# Altium schematic symbol library dungvh03-ICs.SchLib: 787 symbols (part 8 of 30)
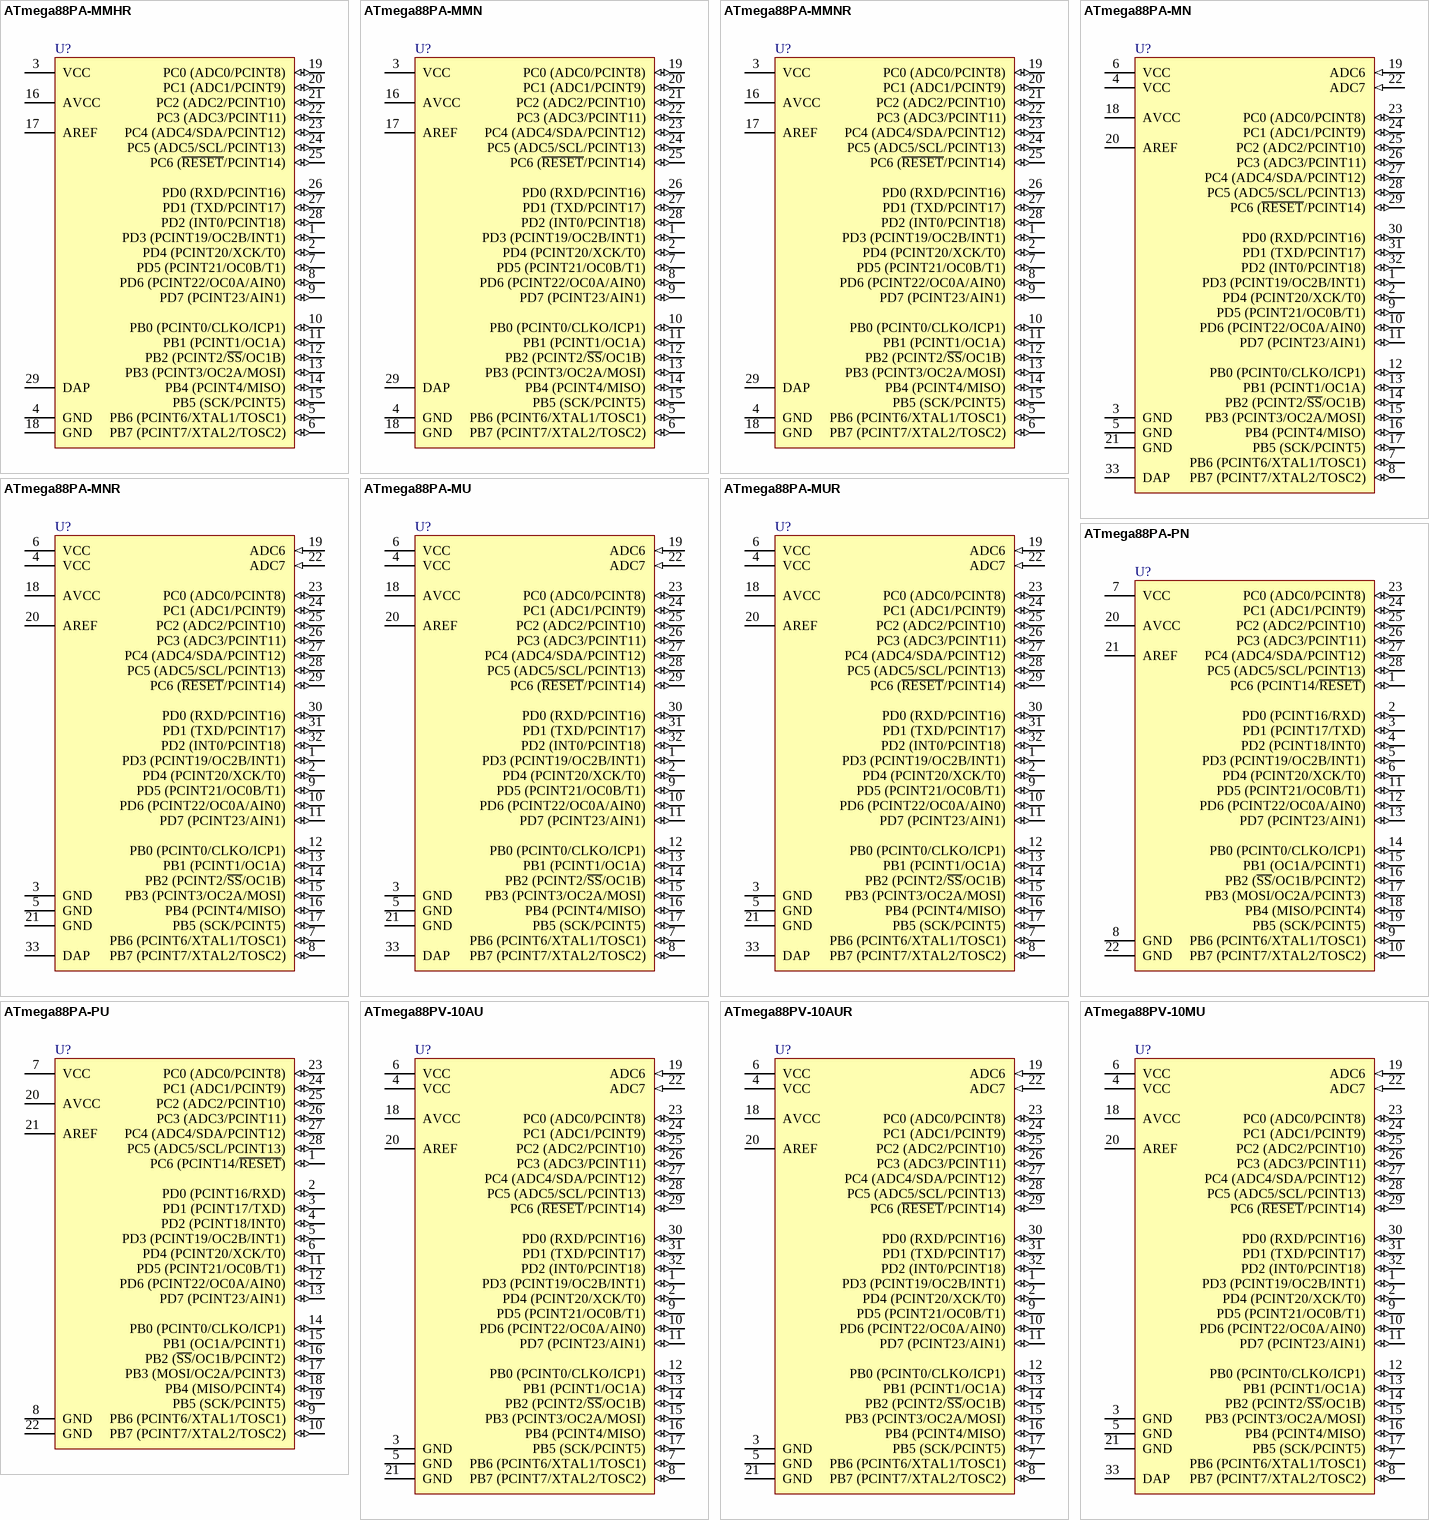
[diagram p105: symbols ATmega88PA-MMHR to ATmega88PV-10MU]

## ATmega88PA-MN
designator U?
8-bit AVR Microcontroller, 8KB Flash, 512 Bytes EEPROM, 1KB SRAM, 32-pin MLF, Industrial Grade (-40°C to 105°C); DatasheetVersion: revD, May-2011; PackageVersion: revE, May-2006; PackageReference: 32M1-A; PackageDescription: 32-Pin Micro Lead Frame Package (MLF),  5 x 5 x 1.0 mm Body, Pitch 0.50 mm, 3.10mm Exposed Pad; Code_JEDEC: MO-220-VHHD-2; ComponentLink1Description: Manufacturer URL; ComponentLink1URL: http://www.atmel.com/; ComponentLink2Description: ATmega48A/48PA/88A/88PA/168A/168PA/328/328P Datasheet; ComponentLink2URL: http://www.atmel.com/dyn/resources/prod_documents/8271.pdf; ComponentLink3Description: ATmega48A/48PA/88A/88PA/168A/168PA/328/328P Summary; ComponentLink3URL: http://www.atmel.com/dyn/resources/prod_documents/8271S.pdf
footprint 32M1-A_N (QFN, 32-Leads, Body 5x5mm, Pitch 0.5mm, Thermal Pad 3.3x3.3mm, IPC Medium Density)
footprint 32M1-A_L (QFN, 32-Leads, Body 5x5mm, Pitch 0.5mm, Thermal Pad 3.3x3.3mm, IPC High Density)
footprint 32M1-A_M (QFN, 32-Leads, Body 5x5mm, Pitch 0.5mm, Thermal Pad 3.3x3.3mm, IPC Low Density)
pins: 1 PD3 (PCINT19/OC2B/INT1) (io), 2 PD4 (PCINT20/XCK/T0) (io), 3 GND (power), 4 VCC (power), 5 GND (power), 6 VCC (power), 7 PB6 (PCINT6/XTAL1/TOSC1) (io), 8 PB7 (PCINT7/XTAL2/TOSC2) (io), 9 PD5 (PCINT21/OC0B/T1) (io), 10 PD6 (PCINT22/OC0A/AIN0) (io), 11 PD7 (PCINT23/AIN1) (io), 12 PB0 (PCINT0/CLKO/ICP1) (io), 13 PB1 (PCINT1/OC1A) (io), 14 PB2 (PCINT2/~{SS}/OC1B) (io), 15 PB3 (PCINT3/OC2A/MOSI) (io), 16 PB4 (PCINT4/MISO) (io), 17 PB5 (SCK/PCINT5) (io), 18 AVCC (power), 19 ADC6 (in), 20 AREF, 21 GND (power), 22 ADC7 (in), 23 PC0 (ADC0/PCINT8) (io), 24 PC1 (ADC1/PCINT9) (io), 25 PC2 (ADC2/PCINT10) (io), 26 PC3 (ADC3/PCINT11) (io), 27 PC4 (ADC4/SDA/PCINT12) (io), 28 PC5 (ADC5/SCL/PCINT13) (io), 29 PC6 (~{RESET}/PCINT14) (io), 30 PD0 (RXD/PCINT16) (io), 31 PD1 (TXD/PCINT17) (io), 32 PD2 (INT0/PCINT18) (io), 33 DAP (power)

## ATmega88PA-MNR
designator U?
8-bit AVR Microcontroller, 8KB Flash, 512 Bytes EEPROM, 1KB SRAM, 32-pin MLF, Industrial Grade (-40°C to 105°C), Reel; DatasheetVersion: revD, May-2011; PackageVersion: revE, May-2006; PackageReference: 32M1-A; PackageDescription: 32-Pin Micro Lead Frame Package (MLF),  5 x 5 x 1.0 mm Body, Pitch 0.50 mm, 3.10mm Exposed Pad; Code_JEDEC: MO-220-VHHD-2; ComponentLink1Description: Manufacturer URL; ComponentLink1URL: http://www.atmel.com/; ComponentLink2Description: ATmega48A/48PA/88A/88PA/168A/168PA/328/328P Datasheet; ComponentLink2URL: http://www.atmel.com/dyn/resources/prod_documents/8271.pdf; ComponentLink3Description: ATmega48A/48PA/88A/88PA/168A/168PA/328/328P Summary; ComponentLink3URL: http://www.atmel.com/dyn/resources/prod_documents/8271S.pdf
footprint 32M1-A_N (QFN, 32-Leads, Body 5x5mm, Pitch 0.5mm, Thermal Pad 3.3x3.3mm, IPC Medium Density)
footprint 32M1-A_L (QFN, 32-Leads, Body 5x5mm, Pitch 0.5mm, Thermal Pad 3.3x3.3mm, IPC High Density)
footprint 32M1-A_M (QFN, 32-Leads, Body 5x5mm, Pitch 0.5mm, Thermal Pad 3.3x3.3mm, IPC Low Density)
pins: 1 PD3 (PCINT19/OC2B/INT1) (io), 2 PD4 (PCINT20/XCK/T0) (io), 3 GND (power), 4 VCC (power), 5 GND (power), 6 VCC (power), 7 PB6 (PCINT6/XTAL1/TOSC1) (io), 8 PB7 (PCINT7/XTAL2/TOSC2) (io), 9 PD5 (PCINT21/OC0B/T1) (io), 10 PD6 (PCINT22/OC0A/AIN0) (io), 11 PD7 (PCINT23/AIN1) (io), 12 PB0 (PCINT0/CLKO/ICP1) (io), 13 PB1 (PCINT1/OC1A) (io), 14 PB2 (PCINT2/~{SS}/OC1B) (io), 15 PB3 (PCINT3/OC2A/MOSI) (io), 16 PB4 (PCINT4/MISO) (io), 17 PB5 (SCK/PCINT5) (io), 18 AVCC (power), 19 ADC6 (in), 20 AREF, 21 GND (power), 22 ADC7 (in), 23 PC0 (ADC0/PCINT8) (io), 24 PC1 (ADC1/PCINT9) (io), 25 PC2 (ADC2/PCINT10) (io), 26 PC3 (ADC3/PCINT11) (io), 27 PC4 (ADC4/SDA/PCINT12) (io), 28 PC5 (ADC5/SCL/PCINT13) (io), 29 PC6 (~{RESET}/PCINT14) (io), 30 PD0 (RXD/PCINT16) (io), 31 PD1 (TXD/PCINT17) (io), 32 PD2 (INT0/PCINT18) (io), 33 DAP (power)

## ATmega88PA-MU
designator U?
8-bit AVR Microcontroller, 8KB Flash, 512 Bytes EEPROM, 1KB SRAM, 32-pin MLF, Industrial Grade (-40°C to 85°C); DatasheetVersion: revD, May-2011; PackageVersion: revE, May-2006; PackageReference: 32M1-A; PackageDescription: 32-Pin Micro Lead Frame Package (MLF),  5 x 5 x 1.0 mm Body, Pitch 0.50 mm, 3.10mm Exposed Pad; Code_JEDEC: MO-220-VHHD-2; ComponentLink1Description: Manufacturer URL; ComponentLink1URL: http://www.atmel.com/; ComponentLink2Description: ATmega48A/48PA/88A/88PA/168A/168PA/328/328P Datasheet; ComponentLink2URL: http://www.atmel.com/dyn/resources/prod_documents/8271.pdf; ComponentLink3Description: ATmega48A/48PA/88A/88PA/168A/168PA/328/328P Summary; ComponentLink3URL: http://www.atmel.com/dyn/resources/prod_documents/8271S.pdf
footprint 32M1-A_N (QFN, 32-Leads, Body 5x5mm, Pitch 0.5mm, Thermal Pad 3.3x3.3mm, IPC Medium Density)
footprint 32M1-A_L (QFN, 32-Leads, Body 5x5mm, Pitch 0.5mm, Thermal Pad 3.3x3.3mm, IPC High Density)
footprint 32M1-A_M (QFN, 32-Leads, Body 5x5mm, Pitch 0.5mm, Thermal Pad 3.3x3.3mm, IPC Low Density)
pins: 1 PD3 (PCINT19/OC2B/INT1) (io), 2 PD4 (PCINT20/XCK/T0) (io), 3 GND (power), 4 VCC (power), 5 GND (power), 6 VCC (power), 7 PB6 (PCINT6/XTAL1/TOSC1) (io), 8 PB7 (PCINT7/XTAL2/TOSC2) (io), 9 PD5 (PCINT21/OC0B/T1) (io), 10 PD6 (PCINT22/OC0A/AIN0) (io), 11 PD7 (PCINT23/AIN1) (io), 12 PB0 (PCINT0/CLKO/ICP1) (io), 13 PB1 (PCINT1/OC1A) (io), 14 PB2 (PCINT2/~{SS}/OC1B) (io), 15 PB3 (PCINT3/OC2A/MOSI) (io), 16 PB4 (PCINT4/MISO) (io), 17 PB5 (SCK/PCINT5) (io), 18 AVCC (power), 19 ADC6 (in), 20 AREF, 21 GND (power), 22 ADC7 (in), 23 PC0 (ADC0/PCINT8) (io), 24 PC1 (ADC1/PCINT9) (io), 25 PC2 (ADC2/PCINT10) (io), 26 PC3 (ADC3/PCINT11) (io), 27 PC4 (ADC4/SDA/PCINT12) (io), 28 PC5 (ADC5/SCL/PCINT13) (io), 29 PC6 (~{RESET}/PCINT14) (io), 30 PD0 (RXD/PCINT16) (io), 31 PD1 (TXD/PCINT17) (io), 32 PD2 (INT0/PCINT18) (io), 33 DAP (power)

## ATmega88PA-MUR
designator U?
8-bit AVR Microcontroller, 8KB Flash, 512 Bytes EEPROM, 1KB SRAM, 32-pin MLF, Industrial Grade (-40°C to 85°C), Reel; DatasheetVersion: revD, May-2011; PackageVersion: revE, May-2006; PackageReference: 32M1-A; PackageDescription: 32-Pin Micro Lead Frame Package (MLF),  5 x 5 x 1.0 mm Body, Pitch 0.50 mm, 3.10mm Exposed Pad; Code_JEDEC: MO-220-VHHD-2; ComponentLink1Description: Manufacturer URL; ComponentLink1URL: http://www.atmel.com/; ComponentLink2Description: ATmega48A/48PA/88A/88PA/168A/168PA/328/328P Datasheet; ComponentLink2URL: http://www.atmel.com/dyn/resources/prod_documents/8271.pdf; ComponentLink3Description: ATmega48A/48PA/88A/88PA/168A/168PA/328/328P Summary; ComponentLink3URL: http://www.atmel.com/dyn/resources/prod_documents/8271S.pdf
footprint 32M1-A_N (QFN, 32-Leads, Body 5x5mm, Pitch 0.5mm, Thermal Pad 3.3x3.3mm, IPC Medium Density)
footprint 32M1-A_L (QFN, 32-Leads, Body 5x5mm, Pitch 0.5mm, Thermal Pad 3.3x3.3mm, IPC High Density)
footprint 32M1-A_M (QFN, 32-Leads, Body 5x5mm, Pitch 0.5mm, Thermal Pad 3.3x3.3mm, IPC Low Density)
pins: 1 PD3 (PCINT19/OC2B/INT1) (io), 2 PD4 (PCINT20/XCK/T0) (io), 3 GND (power), 4 VCC (power), 5 GND (power), 6 VCC (power), 7 PB6 (PCINT6/XTAL1/TOSC1) (io), 8 PB7 (PCINT7/XTAL2/TOSC2) (io), 9 PD5 (PCINT21/OC0B/T1) (io), 10 PD6 (PCINT22/OC0A/AIN0) (io), 11 PD7 (PCINT23/AIN1) (io), 12 PB0 (PCINT0/CLKO/ICP1) (io), 13 PB1 (PCINT1/OC1A) (io), 14 PB2 (PCINT2/~{SS}/OC1B) (io), 15 PB3 (PCINT3/OC2A/MOSI) (io), 16 PB4 (PCINT4/MISO) (io), 17 PB5 (SCK/PCINT5) (io), 18 AVCC (power), 19 ADC6 (in), 20 AREF, 21 GND (power), 22 ADC7 (in), 23 PC0 (ADC0/PCINT8) (io), 24 PC1 (ADC1/PCINT9) (io), 25 PC2 (ADC2/PCINT10) (io), 26 PC3 (ADC3/PCINT11) (io), 27 PC4 (ADC4/SDA/PCINT12) (io), 28 PC5 (ADC5/SCL/PCINT13) (io), 29 PC6 (~{RESET}/PCINT14) (io), 30 PD0 (RXD/PCINT16) (io), 31 PD1 (TXD/PCINT17) (io), 32 PD2 (INT0/PCINT18) (io), 33 DAP (power)

## ATmega88PA-PN
designator U?
8-bit AVR Microcontroller, 8KB Flash, 512 Bytes EEPROM, 1KB SRAM, 28-pin PDIP, Industrial Grade (-40°C to 105°C); DatasheetVersion: revD, May-2011; PackageVersion: revB, Sep-2001; PackageReference: 28P3; PackageDescription: 28-lead (0.300"/7.62mm Wide) Plastic Dual Inline Package (PDIP); ComponentLink1Description: Manufacturer URL; ComponentLink1URL: http://www.atmel.com/; ComponentLink2Description: ATmega48A/48PA/88A/88PA/168A/168PA/328/328P Datasheet; ComponentLink2URL: http://www.atmel.com/dyn/resources/prod_documents/8271.pdf; ComponentLink3Description: ATmega48A/48PA/88A/88PA/168A/168PA/328/328P Summary; ComponentLink3URL: http://www.atmel.com/dyn/resources/prod_documents/8271S.pdf
footprint 28P3 (DIP, 28-Leads, Row Spacing 7.62mm, Pitch 2.54mm, Body 34.67x7.3mm)
pins: 1 PC6 (PCINT14/~{RESET}) (io), 2 PD0 (PCINT16/RXD) (io), 3 PD1 (PCINT17/TXD) (io), 4 PD2 (PCINT18/INT0) (io), 5 PD3 (PCINT19/OC2B/INT1) (io), 6 PD4 (PCINT20/XCK/T0) (io), 7 VCC (power), 8 GND (power), 9 PB6 (PCINT6/XTAL1/TOSC1) (io), 10 PB7 (PCINT7/XTAL2/TOSC2) (io), 11 PD5 (PCINT21/OC0B/T1) (io), 12 PD6 (PCINT22/OC0A/AIN0) (io), 13 PD7 (PCINT23/AIN1) (io), 14 PB0 (PCINT0/CLKO/ICP1) (io), 15 PB1 (OC1A/PCINT1) (io), 16 PB2 (~{SS}/OC1B/PCINT2) (io), 17 PB3 (MOSI/OC2A/PCINT3) (io), 18 PB4 (MISO/PCINT4) (io), 19 PB5 (SCK/PCINT5) (io), 20 AVCC (power), 21 AREF (power), 22 GND (power), 23 PC0 (ADC0/PCINT8) (io), 24 PC1 (ADC1/PCINT9) (io), 25 PC2 (ADC2/PCINT10) (io), 26 PC3 (ADC3/PCINT11) (io), 27 PC4 (ADC4/SDA/PCINT12) (io), 28 PC5 (ADC5/SCL/PCINT13) (io)

## ATmega88PA-PU
designator U?
8-bit AVR Microcontroller, 8KB Flash, 512 Bytes EEPROM, 1KB SRAM, 28-pin PDIP, Industrial Grade (-40°C to 85°C); DatasheetVersion: revD, May-2011; PackageVersion: revB, Sep-2001; PackageReference: 28P3; PackageDescription: 28-lead (0.300"/7.62mm Wide) Plastic Dual Inline Package (PDIP); ComponentLink1Description: Manufacturer URL; ComponentLink1URL: http://www.atmel.com/; ComponentLink2Description: ATmega48A/48PA/88A/88PA/168A/168PA/328/328P Datasheet; ComponentLink2URL: http://www.atmel.com/dyn/resources/prod_documents/8271.pdf; ComponentLink3Description: ATmega48A/48PA/88A/88PA/168A/168PA/328/328P Summary; ComponentLink3URL: http://www.atmel.com/dyn/resources/prod_documents/8271S.pdf
footprint 28P3 (DIP, 28-Leads, Row Spacing 7.62mm, Pitch 2.54mm, Body 34.67x7.3mm)
pins: 1 PC6 (PCINT14/~{RESET}) (io), 2 PD0 (PCINT16/RXD) (io), 3 PD1 (PCINT17/TXD) (io), 4 PD2 (PCINT18/INT0) (io), 5 PD3 (PCINT19/OC2B/INT1) (io), 6 PD4 (PCINT20/XCK/T0) (io), 7 VCC (power), 8 GND (power), 9 PB6 (PCINT6/XTAL1/TOSC1) (io), 10 PB7 (PCINT7/XTAL2/TOSC2) (io), 11 PD5 (PCINT21/OC0B/T1) (io), 12 PD6 (PCINT22/OC0A/AIN0) (io), 13 PD7 (PCINT23/AIN1) (io), 14 PB0 (PCINT0/CLKO/ICP1) (io), 15 PB1 (OC1A/PCINT1) (io), 16 PB2 (~{SS}/OC1B/PCINT2) (io), 17 PB3 (MOSI/OC2A/PCINT3) (io), 18 PB4 (MISO/PCINT4) (io), 19 PB5 (SCK/PCINT5) (io), 20 AVCC (power), 21 AREF (power), 22 GND (power), 23 PC0 (ADC0/PCINT8) (io), 24 PC1 (ADC1/PCINT9) (io), 25 PC2 (ADC2/PCINT10) (io), 26 PC3 (ADC3/PCINT11) (io), 27 PC4 (ADC4/SDA/PCINT12) (io), 28 PC5 (ADC5/SCL/PCINT13) (io)

## ATmega88PV-10AU
designator U?
8-bit AVR Microcontroller, picoPower, 1.8-5.5V, 8KB Flash, 512 Bytes EEPROM, 1KB SRAM, 32-pin TQFP, Industrial Grade (-40°C to 85°C); DatasheetVersion: revM Jun-2011; PackageVersion: revC, Oct-2010; PackageReference: 32A; PackageDescription: 32-Lead, 7x7x1.0 mm Body, 0.8mm Lead Pitch, Thin Profile Plastic Quad Flat Package (TQFP); Code_JEDEC: MS-026-ABA; ComponentLink1Description: Manufacturer URL; ComponentLink1URL: http://www.atmel.com/; ComponentLink2Description: ATmega48P/88P/168P Datasheet; ComponentLink2URL: http://www.atmel.com/dyn/resources/prod_documents/doc8025.pdf; ComponentLink3Description: ATmega48P/88P/168P Summary; ComponentLink3URL: http://www.atmel.com/dyn/resources/prod_documents/8025s.pdf
footprint 32A_N (Thin QFP, 32-Leads, Body 7x7mm, Pitch 0.8mm, IPC Medium Density)
footprint 32A_L (Thin QFP, 32-Leads, Body 7x7mm, Pitch 0.8mm, IPC High Density)
footprint 32A_M (Thin QFP, 32-Leads, Body 7x7mm, Pitch 0.8mm, IPC Low Density)
pins: 1 PD3 (PCINT19/OC2B/INT1) (io), 2 PD4 (PCINT20/XCK/T0) (io), 3 GND (power), 4 VCC (power), 5 GND (power), 6 VCC (power), 7 PB6 (PCINT6/XTAL1/TOSC1) (io), 8 PB7 (PCINT7/XTAL2/TOSC2) (io), 9 PD5 (PCINT21/OC0B/T1) (io), 10 PD6 (PCINT22/OC0A/AIN0) (io), 11 PD7 (PCINT23/AIN1) (io), 12 PB0 (PCINT0/CLKO/ICP1) (io), 13 PB1 (PCINT1/OC1A) (io), 14 PB2 (PCINT2/~{SS}/OC1B) (io), 15 PB3 (PCINT3/OC2A/MOSI) (io), 16 PB4 (PCINT4/MISO) (io), 17 PB5 (SCK/PCINT5) (io), 18 AVCC (power), 19 ADC6 (in), 20 AREF, 21 GND (power), 22 ADC7 (in), 23 PC0 (ADC0/PCINT8) (io), 24 PC1 (ADC1/PCINT9) (io), 25 PC2 (ADC2/PCINT10) (io), 26 PC3 (ADC3/PCINT11) (io), 27 PC4 (ADC4/SDA/PCINT12) (io), 28 PC5 (ADC5/SCL/PCINT13) (io), 29 PC6 (~{RESET}/PCINT14) (io), 30 PD0 (RXD/PCINT16) (io), 31 PD1 (TXD/PCINT17) (io), 32 PD2 (INT0/PCINT18) (io)

## ATmega88PV-10AUR
designator U?
8-bit AVR Microcontroller, picoPower, 1.8-5.5V, 8KB Flash, 512 Bytes EEPROM, 1KB SRAM, 32-pin TQFP, Industrial Grade (-40°C to 85°C); DatasheetVersion: revM Jun-2011; PackageVersion: revC, Oct-2010; PackageReference: 32A; PackageDescription: 32-Lead, 7x7x1.0 mm Body, 0.8mm Lead Pitch, Thin Profile Plastic Quad Flat Package (TQFP); Code_JEDEC: MS-026-ABA; ComponentLink1Description: Manufacturer URL; ComponentLink1URL: http://www.atmel.com/; ComponentLink2Description: ATmega48P/88P/168P Datasheet; ComponentLink2URL: http://www.atmel.com/dyn/resources/prod_documents/doc8025.pdf; ComponentLink3Description: ATmega48P/88P/168P Summary; ComponentLink3URL: http://www.atmel.com/dyn/resources/prod_documents/8025s.pdf
footprint 32A_N (Thin QFP, 32-Leads, Body 7x7mm, Pitch 0.8mm, IPC Medium Density)
footprint 32A_L (Thin QFP, 32-Leads, Body 7x7mm, Pitch 0.8mm, IPC High Density)
footprint 32A_M (Thin QFP, 32-Leads, Body 7x7mm, Pitch 0.8mm, IPC Low Density)
pins: 1 PD3 (PCINT19/OC2B/INT1) (io), 2 PD4 (PCINT20/XCK/T0) (io), 3 GND (power), 4 VCC (power), 5 GND (power), 6 VCC (power), 7 PB6 (PCINT6/XTAL1/TOSC1) (io), 8 PB7 (PCINT7/XTAL2/TOSC2) (io), 9 PD5 (PCINT21/OC0B/T1) (io), 10 PD6 (PCINT22/OC0A/AIN0) (io), 11 PD7 (PCINT23/AIN1) (io), 12 PB0 (PCINT0/CLKO/ICP1) (io), 13 PB1 (PCINT1/OC1A) (io), 14 PB2 (PCINT2/~{SS}/OC1B) (io), 15 PB3 (PCINT3/OC2A/MOSI) (io), 16 PB4 (PCINT4/MISO) (io), 17 PB5 (SCK/PCINT5) (io), 18 AVCC (power), 19 ADC6 (in), 20 AREF, 21 GND (power), 22 ADC7 (in), 23 PC0 (ADC0/PCINT8) (io), 24 PC1 (ADC1/PCINT9) (io), 25 PC2 (ADC2/PCINT10) (io), 26 PC3 (ADC3/PCINT11) (io), 27 PC4 (ADC4/SDA/PCINT12) (io), 28 PC5 (ADC5/SCL/PCINT13) (io), 29 PC6 (~{RESET}/PCINT14) (io), 30 PD0 (RXD/PCINT16) (io), 31 PD1 (TXD/PCINT17) (io), 32 PD2 (INT0/PCINT18) (io)

## ATmega88PV-10MU
designator U?
8-bit AVR Microcontroller, picoPower, 1.8-5.5V, 8KB Flash, 512 Bytes EEPROM, 1KB SRAM, 32-pin MLF, Industrial Grade (-40°C to 85°C); DatasheetVersion: revM Jun-2011; PackageVersion: revE, May-2006; PackageReference: 32M1-A; PackageDescription: 32-Pin Micro Lead Frame Package (MLF),  5 x 5 x 1.0 mm Body, Pitch 0.50 mm, 3.10mm Exposed Pad; Code_JEDEC: MO-220-VHHD-2; ComponentLink1Description: Manufacturer URL; ComponentLink1URL: http://www.atmel.com/; ComponentLink2Description: ATmega48P/88P/168P Datasheet; ComponentLink2URL: http://www.atmel.com/dyn/resources/prod_documents/doc8025.pdf; ComponentLink3Description: ATmega48P/88P/168P Summary; ComponentLink3URL: http://www.atmel.com/dyn/resources/prod_documents/8025s.pdf
footprint 32M1-A_N (QFN, 32-Leads, Body 5x5mm, Pitch 0.5mm, Thermal Pad 3.3x3.3mm, IPC Medium Density)
footprint 32M1-A_L (QFN, 32-Leads, Body 5x5mm, Pitch 0.5mm, Thermal Pad 3.3x3.3mm, IPC High Density)
footprint 32M1-A_M (QFN, 32-Leads, Body 5x5mm, Pitch 0.5mm, Thermal Pad 3.3x3.3mm, IPC Low Density)
pins: 1 PD3 (PCINT19/OC2B/INT1) (io), 2 PD4 (PCINT20/XCK/T0) (io), 3 GND (power), 4 VCC (power), 5 GND (power), 6 VCC (power), 7 PB6 (PCINT6/XTAL1/TOSC1) (io), 8 PB7 (PCINT7/XTAL2/TOSC2) (io), 9 PD5 (PCINT21/OC0B/T1) (io), 10 PD6 (PCINT22/OC0A/AIN0) (io), 11 PD7 (PCINT23/AIN1) (io), 12 PB0 (PCINT0/CLKO/ICP1) (io), 13 PB1 (PCINT1/OC1A) (io), 14 PB2 (PCINT2/~{SS}/OC1B) (io), 15 PB3 (PCINT3/OC2A/MOSI) (io), 16 PB4 (PCINT4/MISO) (io), 17 PB5 (SCK/PCINT5) (io), 18 AVCC (power), 19 ADC6 (in), 20 AREF, 21 GND (power), 22 ADC7 (in), 23 PC0 (ADC0/PCINT8) (io), 24 PC1 (ADC1/PCINT9) (io), 25 PC2 (ADC2/PCINT10) (io), 26 PC3 (ADC3/PCINT11) (io), 27 PC4 (ADC4/SDA/PCINT12) (io), 28 PC5 (ADC5/SCL/PCINT13) (io), 29 PC6 (~{RESET}/PCINT14) (io), 30 PD0 (RXD/PCINT16) (io), 31 PD1 (TXD/PCINT17) (io), 32 PD2 (INT0/PCINT18) (io), 33 DAP (power)

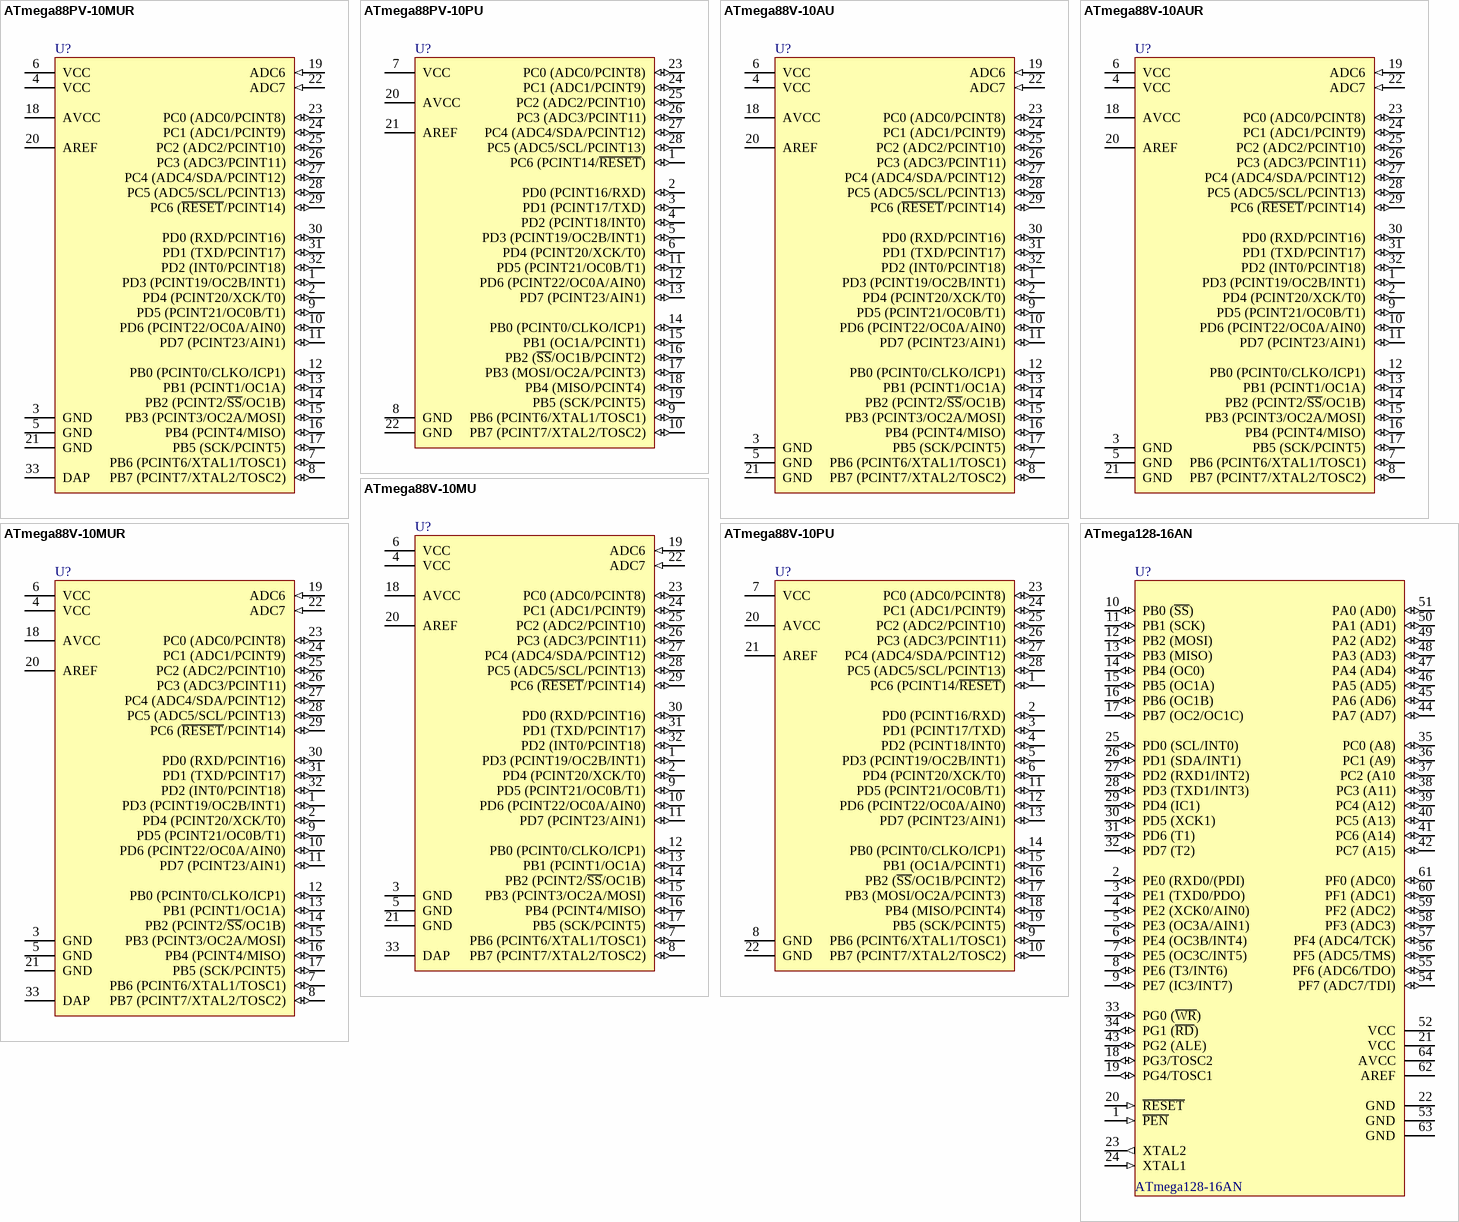
[diagram p19: symbols ATmega88PV-10MUR to ATmega128-16AN]

## ATmega88PV-10MUR
designator U?
8-bit AVR Microcontroller, picoPower, 1.8-5.5V, 8KB Flash, 512 Bytes EEPROM, 1KB SRAM, 32-pin MLF, Industrial Grade (-40°C to 85°C); DatasheetVersion: revM Jun-2011; PackageVersion: revE, May-2006; PackageReference: 32M1-A; PackageDescription: 32-Pin Micro Lead Frame Package (MLF),  5 x 5 x 1.0 mm Body, Pitch 0.50 mm, 3.10mm Exposed Pad; Code_JEDEC: MO-220-VHHD-2; ComponentLink1Description: Manufacturer URL; ComponentLink1URL: http://www.atmel.com/; ComponentLink2Description: ATmega48P/88P/168P Datasheet; ComponentLink2URL: http://www.atmel.com/dyn/resources/prod_documents/doc8025.pdf; ComponentLink3Description: ATmega48P/88P/168P Summary; ComponentLink3URL: http://www.atmel.com/dyn/resources/prod_documents/8025s.pdf
footprint 32M1-A_N (QFN, 32-Leads, Body 5x5mm, Pitch 0.5mm, Thermal Pad 3.3x3.3mm, IPC Medium Density)
footprint 32M1-A_L (QFN, 32-Leads, Body 5x5mm, Pitch 0.5mm, Thermal Pad 3.3x3.3mm, IPC High Density)
footprint 32M1-A_M (QFN, 32-Leads, Body 5x5mm, Pitch 0.5mm, Thermal Pad 3.3x3.3mm, IPC Low Density)
pins: 1 PD3 (PCINT19/OC2B/INT1) (io), 2 PD4 (PCINT20/XCK/T0) (io), 3 GND (power), 4 VCC (power), 5 GND (power), 6 VCC (power), 7 PB6 (PCINT6/XTAL1/TOSC1) (io), 8 PB7 (PCINT7/XTAL2/TOSC2) (io), 9 PD5 (PCINT21/OC0B/T1) (io), 10 PD6 (PCINT22/OC0A/AIN0) (io), 11 PD7 (PCINT23/AIN1) (io), 12 PB0 (PCINT0/CLKO/ICP1) (io), 13 PB1 (PCINT1/OC1A) (io), 14 PB2 (PCINT2/~{SS}/OC1B) (io), 15 PB3 (PCINT3/OC2A/MOSI) (io), 16 PB4 (PCINT4/MISO) (io), 17 PB5 (SCK/PCINT5) (io), 18 AVCC (power), 19 ADC6 (in), 20 AREF, 21 GND (power), 22 ADC7 (in), 23 PC0 (ADC0/PCINT8) (io), 24 PC1 (ADC1/PCINT9) (io), 25 PC2 (ADC2/PCINT10) (io), 26 PC3 (ADC3/PCINT11) (io), 27 PC4 (ADC4/SDA/PCINT12) (io), 28 PC5 (ADC5/SCL/PCINT13) (io), 29 PC6 (~{RESET}/PCINT14) (io), 30 PD0 (RXD/PCINT16) (io), 31 PD1 (TXD/PCINT17) (io), 32 PD2 (INT0/PCINT18) (io), 33 DAP (power)

## ATmega88PV-10PU
designator U?
8-bit AVR Microcontroller, picoPower, 1.8-5.5V, 8KB Flash, 512 Bytes EEPROM, 1KB SRAM, 28-pin PDIP, Industrial Grade (-40°C to 85°C); DatasheetVersion: revM Jun-2011; PackageVersion: revB, Sep-2001; PackageReference: 28P3; PackageDescription: 28-lead (0.300"/7.62mm Wide) Plastic Dual Inline Package (PDIP); ComponentLink1Description: Manufacturer URL; ComponentLink1URL: http://www.atmel.com/; ComponentLink2Description: ATmega48P/88P/168P Datasheet; ComponentLink2URL: http://www.atmel.com/dyn/resources/prod_documents/doc8025.pdf; ComponentLink3Description: ATmega48P/88P/168P Summary; ComponentLink3URL: http://www.atmel.com/dyn/resources/prod_documents/8025s.pdf
footprint 28P3 (DIP, 28-Leads, Row Spacing 7.62mm, Pitch 2.54mm, Body 34.67x7.3mm)
pins: 1 PC6 (PCINT14/~{RESET}) (io), 2 PD0 (PCINT16/RXD) (io), 3 PD1 (PCINT17/TXD) (io), 4 PD2 (PCINT18/INT0) (io), 5 PD3 (PCINT19/OC2B/INT1) (io), 6 PD4 (PCINT20/XCK/T0) (io), 7 VCC (power), 8 GND (power), 9 PB6 (PCINT6/XTAL1/TOSC1) (io), 10 PB7 (PCINT7/XTAL2/TOSC2) (io), 11 PD5 (PCINT21/OC0B/T1) (io), 12 PD6 (PCINT22/OC0A/AIN0) (io), 13 PD7 (PCINT23/AIN1) (io), 14 PB0 (PCINT0/CLKO/ICP1) (io), 15 PB1 (OC1A/PCINT1) (io), 16 PB2 (~{SS}/OC1B/PCINT2) (io), 17 PB3 (MOSI/OC2A/PCINT3) (io), 18 PB4 (MISO/PCINT4) (io), 19 PB5 (SCK/PCINT5) (io), 20 AVCC (power), 21 AREF (power), 22 GND (power), 23 PC0 (ADC0/PCINT8) (io), 24 PC1 (ADC1/PCINT9) (io), 25 PC2 (ADC2/PCINT10) (io), 26 PC3 (ADC3/PCINT11) (io), 27 PC4 (ADC4/SDA/PCINT12) (io), 28 PC5 (ADC5/SCL/PCINT13) (io)

## ATmega88V-10AU
designator U?
8-bit AVR Microcontroller, 1.8-5.5V, 10MHz, 8KB Flash, 512 Bytes EEPROM, 1KB SRAM, 32-pin TQFP, Industrial Grade (-40°C to 85°C); DatasheetVersion: revT, May-2011; PackageVersion: revC, Oct-2010; PackageReference: 32A; PackageDescription: 32-Lead, 7x7x1.0 mm Body, 0.8mm Lead Pitch, Thin Profile Plastic Quad Flat Package (TQFP); Code_JEDEC: MS-026-ABA; ComponentLink1Description: Manufacturer URL; ComponentLink1URL: http://www.atmel.com/; ComponentLink2Description: ATmega48/88/168 Datasheet; ComponentLink2URL: http://www.atmel.com/dyn/resources/prod_documents/doc2545.pdf; ComponentLink3Description: ATmega48/88/168 Summary; ComponentLink3URL: http://www.atmel.com/dyn/resources/prod_documents/2545S.pdf
footprint 32A_N (Thin QFP, 32-Leads, Body 7x7mm, Pitch 0.8mm, IPC Medium Density)
footprint 32A_L (Thin QFP, 32-Leads, Body 7x7mm, Pitch 0.8mm, IPC High Density)
footprint 32A_M (Thin QFP, 32-Leads, Body 7x7mm, Pitch 0.8mm, IPC Low Density)
pins: 1 PD3 (PCINT19/OC2B/INT1) (io), 2 PD4 (PCINT20/XCK/T0) (io), 3 GND (power), 4 VCC (power), 5 GND (power), 6 VCC (power), 7 PB6 (PCINT6/XTAL1/TOSC1) (io), 8 PB7 (PCINT7/XTAL2/TOSC2) (io), 9 PD5 (PCINT21/OC0B/T1) (io), 10 PD6 (PCINT22/OC0A/AIN0) (io), 11 PD7 (PCINT23/AIN1) (io), 12 PB0 (PCINT0/CLKO/ICP1) (io), 13 PB1 (PCINT1/OC1A) (io), 14 PB2 (PCINT2/~{SS}/OC1B) (io), 15 PB3 (PCINT3/OC2A/MOSI) (io), 16 PB4 (PCINT4/MISO) (io), 17 PB5 (SCK/PCINT5) (io), 18 AVCC (power), 19 ADC6 (in), 20 AREF, 21 GND (power), 22 ADC7 (in), 23 PC0 (ADC0/PCINT8) (io), 24 PC1 (ADC1/PCINT9) (io), 25 PC2 (ADC2/PCINT10) (io), 26 PC3 (ADC3/PCINT11) (io), 27 PC4 (ADC4/SDA/PCINT12) (io), 28 PC5 (ADC5/SCL/PCINT13) (io), 29 PC6 (~{RESET}/PCINT14) (io), 30 PD0 (RXD/PCINT16) (io), 31 PD1 (TXD/PCINT17) (io), 32 PD2 (INT0/PCINT18) (io)

## ATmega88V-10AUR
designator U?
8-bit AVR Microcontroller, 1.8-5.5V, 10MHz, 8KB Flash, 512 Bytes EEPROM, 1KB SRAM, 32-pin TQFP, Industrial Grade (-40°C to 85°C), Reel; DatasheetVersion: revT, May-2011; PackageVersion: revC, Oct-2010; PackageReference: 32A; PackageDescription: 32-Lead, 7x7x1.0 mm Body, 0.8mm Lead Pitch, Thin Profile Plastic Quad Flat Package (TQFP); Code_JEDEC: MS-026-ABA; ComponentLink1Description: Manufacturer URL; ComponentLink1URL: http://www.atmel.com/; ComponentLink2Description: ATmega48/88/168 Datasheet; ComponentLink2URL: http://www.atmel.com/dyn/resources/prod_documents/doc2545.pdf; ComponentLink3Description: ATmega48/88/168 Summary; ComponentLink3URL: http://www.atmel.com/dyn/resources/prod_documents/2545S.pdf
footprint 32A_N (Thin QFP, 32-Leads, Body 7x7mm, Pitch 0.8mm, IPC Medium Density)
footprint 32A_L (Thin QFP, 32-Leads, Body 7x7mm, Pitch 0.8mm, IPC High Density)
footprint 32A_M (Thin QFP, 32-Leads, Body 7x7mm, Pitch 0.8mm, IPC Low Density)
pins: 1 PD3 (PCINT19/OC2B/INT1) (io), 2 PD4 (PCINT20/XCK/T0) (io), 3 GND (power), 4 VCC (power), 5 GND (power), 6 VCC (power), 7 PB6 (PCINT6/XTAL1/TOSC1) (io), 8 PB7 (PCINT7/XTAL2/TOSC2) (io), 9 PD5 (PCINT21/OC0B/T1) (io), 10 PD6 (PCINT22/OC0A/AIN0) (io), 11 PD7 (PCINT23/AIN1) (io), 12 PB0 (PCINT0/CLKO/ICP1) (io), 13 PB1 (PCINT1/OC1A) (io), 14 PB2 (PCINT2/~{SS}/OC1B) (io), 15 PB3 (PCINT3/OC2A/MOSI) (io), 16 PB4 (PCINT4/MISO) (io), 17 PB5 (SCK/PCINT5) (io), 18 AVCC (power), 19 ADC6 (in), 20 AREF, 21 GND (power), 22 ADC7 (in), 23 PC0 (ADC0/PCINT8) (io), 24 PC1 (ADC1/PCINT9) (io), 25 PC2 (ADC2/PCINT10) (io), 26 PC3 (ADC3/PCINT11) (io), 27 PC4 (ADC4/SDA/PCINT12) (io), 28 PC5 (ADC5/SCL/PCINT13) (io), 29 PC6 (~{RESET}/PCINT14) (io), 30 PD0 (RXD/PCINT16) (io), 31 PD1 (TXD/PCINT17) (io), 32 PD2 (INT0/PCINT18) (io)

## ATmega88V-10MU
designator U?
8-bit AVR Microcontroller, 1.8-5.5V, 10MHz, 8KB Flash, 512 Bytes EEPROM, 1KB SRAM, 32-pin MLF, Industrial Grade (-40°C to 85°C); DatasheetVersion: revT, May-2011; PackageVersion: revE, May-2006; PackageReference: 32M1-A; PackageDescription: 32-Pin Micro Lead Frame Package (MLF),  5 x 5 x 1.0 mm Body, Pitch 0.50 mm, 3.10mm Exposed Pad; Code_JEDEC: MO-220-VHHD-2; ComponentLink1Description: Manufacturer URL; ComponentLink1URL: http://www.atmel.com/; ComponentLink2Description: ATmega48/88/168 Datasheet; ComponentLink2URL: http://www.atmel.com/dyn/resources/prod_documents/doc2545.pdf; ComponentLink3Description: ATmega48/88/168 Summary; ComponentLink3URL: http://www.atmel.com/dyn/resources/prod_documents/2545S.pdf
footprint 32M1-A_N (QFN, 32-Leads, Body 5x5mm, Pitch 0.5mm, Thermal Pad 3.3x3.3mm, IPC Medium Density)
footprint 32M1-A_L (QFN, 32-Leads, Body 5x5mm, Pitch 0.5mm, Thermal Pad 3.3x3.3mm, IPC High Density)
footprint 32M1-A_M (QFN, 32-Leads, Body 5x5mm, Pitch 0.5mm, Thermal Pad 3.3x3.3mm, IPC Low Density)
pins: 1 PD3 (PCINT19/OC2B/INT1) (io), 2 PD4 (PCINT20/XCK/T0) (io), 3 GND (power), 4 VCC (power), 5 GND (power), 6 VCC (power), 7 PB6 (PCINT6/XTAL1/TOSC1) (io), 8 PB7 (PCINT7/XTAL2/TOSC2) (io), 9 PD5 (PCINT21/OC0B/T1) (io), 10 PD6 (PCINT22/OC0A/AIN0) (io), 11 PD7 (PCINT23/AIN1) (io), 12 PB0 (PCINT0/CLKO/ICP1) (io), 13 PB1 (PCINT1/OC1A) (io), 14 PB2 (PCINT2/~{SS}/OC1B) (io), 15 PB3 (PCINT3/OC2A/MOSI) (io), 16 PB4 (PCINT4/MISO) (io), 17 PB5 (SCK/PCINT5) (io), 18 AVCC (power), 19 ADC6 (in), 20 AREF, 21 GND (power), 22 ADC7 (in), 23 PC0 (ADC0/PCINT8) (io), 24 PC1 (ADC1/PCINT9) (io), 25 PC2 (ADC2/PCINT10) (io), 26 PC3 (ADC3/PCINT11) (io), 27 PC4 (ADC4/SDA/PCINT12) (io), 28 PC5 (ADC5/SCL/PCINT13) (io), 29 PC6 (~{RESET}/PCINT14) (io), 30 PD0 (RXD/PCINT16) (io), 31 PD1 (TXD/PCINT17) (io), 32 PD2 (INT0/PCINT18) (io), 33 DAP (power)

## ATmega88V-10MUR
designator U?
8-bit AVR Microcontroller, 1.8-5.5V, 10MHz, 8KB Flash, 512 Bytes EEPROM, 1KB SRAM, 32-pin MLF, Industrial Grade (-40°C to 85°C), Reel; DatasheetVersion: revT, May-2011; PackageVersion: revE, May-2006; PackageReference: 32M1-A; PackageDescription: 32-Pin Micro Lead Frame Package (MLF),  5 x 5 x 1.0 mm Body, Pitch 0.50 mm, 3.10mm Exposed Pad; Code_JEDEC: MO-220-VHHD-2; ComponentLink1Description: Manufacturer URL; ComponentLink1URL: http://www.atmel.com/; ComponentLink2Description: ATmega48/88/168 Datasheet; ComponentLink2URL: http://www.atmel.com/dyn/resources/prod_documents/doc2545.pdf; ComponentLink3Description: ATmega48/88/168 Summary; ComponentLink3URL: http://www.atmel.com/dyn/resources/prod_documents/2545S.pdf
footprint 32M1-A_N (QFN, 32-Leads, Body 5x5mm, Pitch 0.5mm, Thermal Pad 3.3x3.3mm, IPC Medium Density)
footprint 32M1-A_L (QFN, 32-Leads, Body 5x5mm, Pitch 0.5mm, Thermal Pad 3.3x3.3mm, IPC High Density)
footprint 32M1-A_M (QFN, 32-Leads, Body 5x5mm, Pitch 0.5mm, Thermal Pad 3.3x3.3mm, IPC Low Density)
pins: 1 PD3 (PCINT19/OC2B/INT1) (io), 2 PD4 (PCINT20/XCK/T0) (io), 3 GND (power), 4 VCC (power), 5 GND (power), 6 VCC (power), 7 PB6 (PCINT6/XTAL1/TOSC1) (io), 8 PB7 (PCINT7/XTAL2/TOSC2) (io), 9 PD5 (PCINT21/OC0B/T1) (io), 10 PD6 (PCINT22/OC0A/AIN0) (io), 11 PD7 (PCINT23/AIN1) (io), 12 PB0 (PCINT0/CLKO/ICP1) (io), 13 PB1 (PCINT1/OC1A) (io), 14 PB2 (PCINT2/~{SS}/OC1B) (io), 15 PB3 (PCINT3/OC2A/MOSI) (io), 16 PB4 (PCINT4/MISO) (io), 17 PB5 (SCK/PCINT5) (io), 18 AVCC (power), 19 ADC6 (in), 20 AREF, 21 GND (power), 22 ADC7 (in), 23 PC0 (ADC0/PCINT8) (io), 24 PC1 (ADC1/PCINT9) (io), 25 PC2 (ADC2/PCINT10) (io), 26 PC3 (ADC3/PCINT11) (io), 27 PC4 (ADC4/SDA/PCINT12) (io), 28 PC5 (ADC5/SCL/PCINT13) (io), 29 PC6 (~{RESET}/PCINT14) (io), 30 PD0 (RXD/PCINT16) (io), 31 PD1 (TXD/PCINT17) (io), 32 PD2 (INT0/PCINT18) (io), 33 DAP (power)

## ATmega88V-10PU
designator U?
8-bit AVR Microcontroller, 1.8-5.5V, 10MHz, 8KB Flash, 512 Bytes EEPROM, 1KB SRAM, 28-pin PDIP, Industrial Grade (-40°C to 85°C); DatasheetVersion: revT, May-2011; PackageVersion: revB, Sep-2001; PackageReference: 28P3; PackageDescription: 28-lead (0.300"/7.62mm Wide) Plastic Dual Inline Package (PDIP); ComponentLink1Description: Manufacturer URL; ComponentLink1URL: http://www.atmel.com/; ComponentLink2Description: ATmega48/88/168 Datasheet; ComponentLink2URL: http://www.atmel.com/dyn/resources/prod_documents/doc2545.pdf; ComponentLink3Description: ATmega48/88/168 Summary; ComponentLink3URL: http://www.atmel.com/dyn/resources/prod_documents/2545S.pdf
footprint 28P3 (DIP, 28-Leads, Row Spacing 7.62mm, Pitch 2.54mm, Body 34.67x7.3mm)
pins: 1 PC6 (PCINT14/~{RESET}) (io), 2 PD0 (PCINT16/RXD) (io), 3 PD1 (PCINT17/TXD) (io), 4 PD2 (PCINT18/INT0) (io), 5 PD3 (PCINT19/OC2B/INT1) (io), 6 PD4 (PCINT20/XCK/T0) (io), 7 VCC (power), 8 GND (power), 9 PB6 (PCINT6/XTAL1/TOSC1) (io), 10 PB7 (PCINT7/XTAL2/TOSC2) (io), 11 PD5 (PCINT21/OC0B/T1) (io), 12 PD6 (PCINT22/OC0A/AIN0) (io), 13 PD7 (PCINT23/AIN1) (io), 14 PB0 (PCINT0/CLKO/ICP1) (io), 15 PB1 (OC1A/PCINT1) (io), 16 PB2 (~{SS}/OC1B/PCINT2) (io), 17 PB3 (MOSI/OC2A/PCINT3) (io), 18 PB4 (MISO/PCINT4) (io), 19 PB5 (SCK/PCINT5) (io), 20 AVCC (power), 21 AREF (power), 22 GND (power), 23 PC0 (ADC0/PCINT8) (io), 24 PC1 (ADC1/PCINT9) (io), 25 PC2 (ADC2/PCINT10) (io), 26 PC3 (ADC3/PCINT11) (io), 27 PC4 (ADC4/SDA/PCINT12) (io), 28 PC5 (ADC5/SCL/PCINT13) (io)

## ATmega128-16AN
designator U?
8-bit AVR Microcontroller, 4.5-5.5V, 128KB Flash, 4KB EEPROM, 4KB SRAM, 64-pin TQFP, Extended Grade (-40°C to 105°C); DatasheetVersion: revX, Jun-2011; PackageVersion: revC, Oct-2010; PackageReference: 64A; PackageDescription: 64-Pin Plastic Thin Profile Quad Flat Pack, 14 x 14 x 1.0 mm Body, 0.8 mm Pitch (TQFP); Code_JEDEC: MS-026-AEB; ComponentLink1Description: Manufacturer URL; ComponentLink1URL: http://www.atmel.com/; ComponentLink2Description: ATmega128(L) Datasheet; ComponentLink2URL: http://www.atmel.com/dyn/resources/prod_documents/doc2467.pdf; ComponentLink3Description: ATmega128(L) Summary; ComponentLink3URL: http://www.atmel.com/dyn/resources/prod_documents/2467S.pdf
footprint 64A_N (Thin QFP, 64-Leads, Body 14x14mm, Pitch 0.8mm, IPC Medium Density)
footprint 64A_L (Thin QFP, 64-Leads, Body 14x14mm, Pitch 0.8mm, IPC High Density)
footprint 64A_M (Thin QFP, 64-Leads, Body 14x14mm, Pitch 0.8mm, IPC Low Density)
pins: 1 ~{PEN} (in), 2 PE0 (RXD0/(PDI) (io), 3 PE1 (TXD0/PDO) (io), 4 PE2 (XCK0/AIN0) (io), 5 PE3 (OC3A/AIN1) (io), 6 PE4 (OC3B/INT4) (io), 7 PE5 (OC3C/INT5) (io), 8 PE6 (T3/INT6) (io), 9 PE7 (IC3/INT7) (io), 10 PB0 (~{SS}) (io), 11 PB1 (SCK) (io), 12 PB2 (MOSI) (io), 13 PB3 (MISO) (io), 14 PB4 (OC0) (io), 15 PB5 (OC1A) (io), 16 PB6 (OC1B) (io), 17 PB7 (OC2/OC1C) (io), 18 PG3/TOSC2 (io), 19 PG4/TOSC1 (io), 20 ~{RESET} (in), 21 VCC (power), 22 GND (power), 23 XTAL2 (out), 24 XTAL1 (in), 25 PD0 (SCL/INT0) (io), 26 PD1 (SDA/INT1) (io), 27 PD2 (RXD1/INT2) (io), 28 PD3 (TXD1/INT3) (io), 29 PD4 (IC1) (io), 30 PD5 (XCK1) (io), 31 PD6 (T1) (io), 32 PD7 (T2) (io), 33 PG0 (~{WR}) (io), 34 PG1 (~{RD}) (io), 35 PC0 (A8) (io), 36 PC1 (A9) (io), 37 PC2 (A10 (io), 38 PC3 (A11) (io), 39 PC4 (A12) (io), 40 PC5 (A13) (io), 41 PC6 (A14) (io), 42 PC7 (A15) (io), 43 PG2 (ALE) (io), 44 PA7 (AD7) (io), 45 PA6 (AD6) (io), 46 PA5 (AD5) (io), 47 PA4 (AD4) (io), 48 PA3 (AD3) (io), 49 PA2 (AD2) (io), 50 PA1 (AD1) (io), 51 PA0 (AD0) (io), 52 VCC (power), 53 GND (power), 54 PF7 (ADC7/TDI) (io), 55 PF6 (ADC6/TDO) (io), 56 PF5 (ADC5/TMS) (io), 57 PF4 (ADC4/TCK) (io), 58 PF3 (ADC3) (io), 59 PF2 (ADC2) (io), 60 PF1 (ADC1) (io), 61 PF0 (ADC0) (io), 62 AREF, 63 GND (power), 64 AVCC (power)

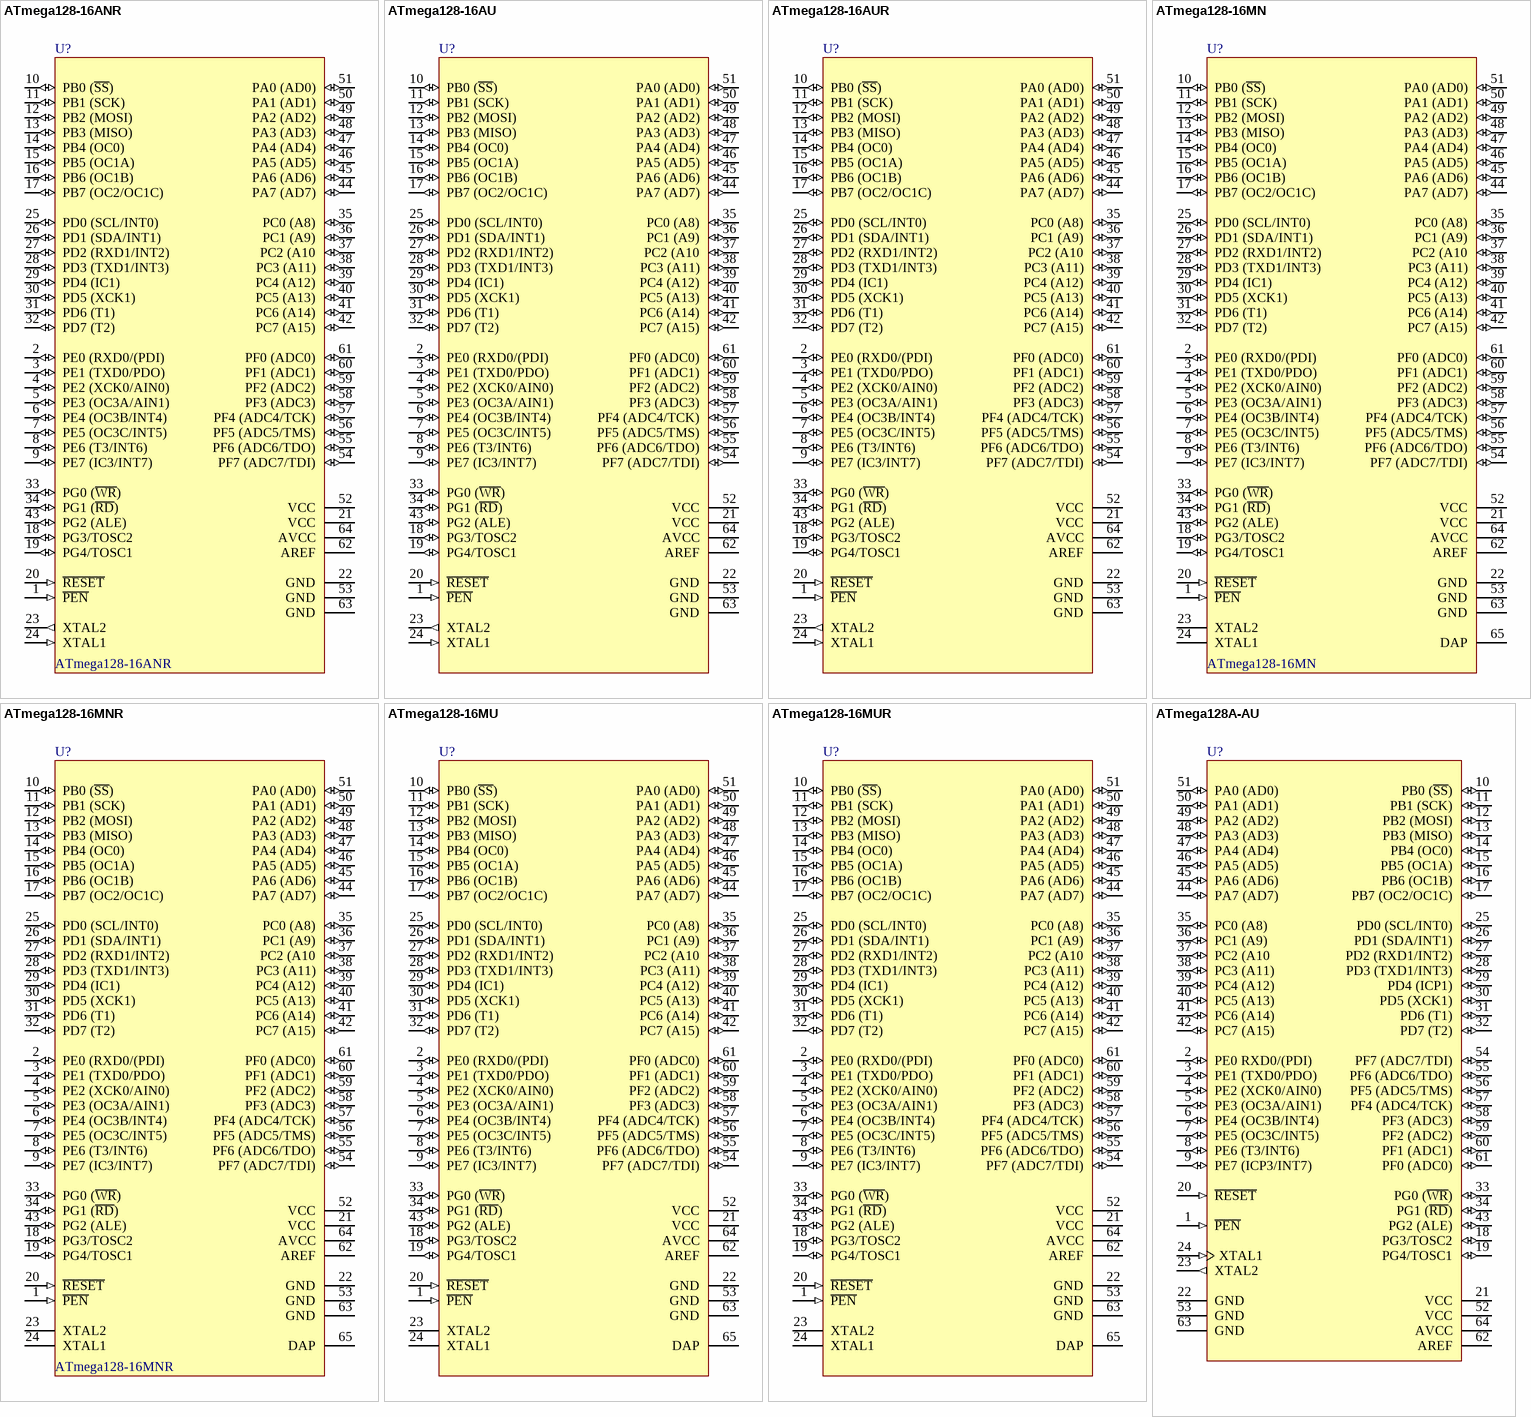
[diagram p20: symbols ATmega128-16ANR to ATmega128A-AU]

## ATmega128-16ANR
designator U?
8-bit AVR Microcontroller, 4.5-5.5V, 128KB Flash, 4KB EEPROM, 4KB SRAM, 64-pin TQFP, Extended Grade (-40°C to 105°C), Reel; DatasheetVersion: revX, Jun-2011; PackageVersion: revC, Oct-2010; PackageReference: 64A; PackageDescription: 64-Pin Plastic Thin Profile Quad Flat Pack, 14 x 14 x 1.0 mm Body, 0.8 mm Pitch (TQFP); Code_JEDEC: MS-026-AEB; ComponentLink1Description: Manufacturer URL; ComponentLink1URL: http://www.atmel.com/; ComponentLink2Description: ATmega128(L) Datasheet; ComponentLink2URL: http://www.atmel.com/dyn/resources/prod_documents/doc2467.pdf; ComponentLink3Description: ATmega128(L) Summary; ComponentLink3URL: http://www.atmel.com/dyn/resources/prod_documents/2467S.pdf
footprint 64A_N (Thin QFP, 64-Leads, Body 14x14mm, Pitch 0.8mm, IPC Medium Density)
footprint 64A_L (Thin QFP, 64-Leads, Body 14x14mm, Pitch 0.8mm, IPC High Density)
footprint 64A_M (Thin QFP, 64-Leads, Body 14x14mm, Pitch 0.8mm, IPC Low Density)
pins: 1 ~{PEN} (in), 2 PE0 (RXD0/(PDI) (io), 3 PE1 (TXD0/PDO) (io), 4 PE2 (XCK0/AIN0) (io), 5 PE3 (OC3A/AIN1) (io), 6 PE4 (OC3B/INT4) (io), 7 PE5 (OC3C/INT5) (io), 8 PE6 (T3/INT6) (io), 9 PE7 (IC3/INT7) (io), 10 PB0 (~{SS}) (io), 11 PB1 (SCK) (io), 12 PB2 (MOSI) (io), 13 PB3 (MISO) (io), 14 PB4 (OC0) (io), 15 PB5 (OC1A) (io), 16 PB6 (OC1B) (io), 17 PB7 (OC2/OC1C) (io), 18 PG3/TOSC2 (io), 19 PG4/TOSC1 (io), 20 ~{RESET} (in), 21 VCC (power), 22 GND (power), 23 XTAL2 (out), 24 XTAL1 (in), 25 PD0 (SCL/INT0) (io), 26 PD1 (SDA/INT1) (io), 27 PD2 (RXD1/INT2) (io), 28 PD3 (TXD1/INT3) (io), 29 PD4 (IC1) (io), 30 PD5 (XCK1) (io), 31 PD6 (T1) (io), 32 PD7 (T2) (io), 33 PG0 (~{WR}) (io), 34 PG1 (~{RD}) (io), 35 PC0 (A8) (io), 36 PC1 (A9) (io), 37 PC2 (A10 (io), 38 PC3 (A11) (io), 39 PC4 (A12) (io), 40 PC5 (A13) (io), 41 PC6 (A14) (io), 42 PC7 (A15) (io), 43 PG2 (ALE) (io), 44 PA7 (AD7) (io), 45 PA6 (AD6) (io), 46 PA5 (AD5) (io), 47 PA4 (AD4) (io), 48 PA3 (AD3) (io), 49 PA2 (AD2) (io), 50 PA1 (AD1) (io), 51 PA0 (AD0) (io), 52 VCC (power), 53 GND (power), 54 PF7 (ADC7/TDI) (io), 55 PF6 (ADC6/TDO) (io), 56 PF5 (ADC5/TMS) (io), 57 PF4 (ADC4/TCK) (io), 58 PF3 (ADC3) (io), 59 PF2 (ADC2) (io), 60 PF1 (ADC1) (io), 61 PF0 (ADC0) (io), 62 AREF, 63 GND (power), 64 AVCC (power)

## ATmega128-16AU
designator U?
8-bit AVR Microcontroller, 4.5-5.5V, 128KB Flash, 4KB EEPROM, 4KB SRAM, 64-pin TQFP, Industrial Grade (-40°C to 85°C); DatasheetVersion: revX, Jun-2011; PackageVersion: revC, Oct-2010; PackageReference: 64A; PackageDescription: 64-Pin Plastic Thin Profile Quad Flat Pack, 14 x 14 x 1.0 mm Body, 0.8 mm Pitch (TQFP); Code_JEDEC: MS-026-AEB; ComponentLink1Description: Manufacturer URL; ComponentLink1URL: http://www.atmel.com/; ComponentLink2Description: ATmega128(L) Datasheet; ComponentLink2URL: http://www.atmel.com/dyn/resources/prod_documents/doc2467.pdf; ComponentLink3Description: ATmega128(L) Summary; ComponentLink3URL: http://www.atmel.com/dyn/resources/prod_documents/2467S.pdf
footprint 64A_N (Thin QFP, 64-Leads, Body 14x14mm, Pitch 0.8mm, IPC Medium Density)
footprint 64A_L (Thin QFP, 64-Leads, Body 14x14mm, Pitch 0.8mm, IPC High Density)
footprint 64A_M (Thin QFP, 64-Leads, Body 14x14mm, Pitch 0.8mm, IPC Low Density)
pins: 1 ~{PEN} (in), 2 PE0 (RXD0/(PDI) (io), 3 PE1 (TXD0/PDO) (io), 4 PE2 (XCK0/AIN0) (io), 5 PE3 (OC3A/AIN1) (io), 6 PE4 (OC3B/INT4) (io), 7 PE5 (OC3C/INT5) (io), 8 PE6 (T3/INT6) (io), 9 PE7 (IC3/INT7) (io), 10 PB0 (~{SS}) (io), 11 PB1 (SCK) (io), 12 PB2 (MOSI) (io), 13 PB3 (MISO) (io), 14 PB4 (OC0) (io), 15 PB5 (OC1A) (io), 16 PB6 (OC1B) (io), 17 PB7 (OC2/OC1C) (io), 18 PG3/TOSC2 (io), 19 PG4/TOSC1 (io), 20 ~{RESET} (in), 21 VCC (power), 22 GND (power), 23 XTAL2 (out), 24 XTAL1 (in), 25 PD0 (SCL/INT0) (io), 26 PD1 (SDA/INT1) (io), 27 PD2 (RXD1/INT2) (io), 28 PD3 (TXD1/INT3) (io), 29 PD4 (IC1) (io), 30 PD5 (XCK1) (io), 31 PD6 (T1) (io), 32 PD7 (T2) (io), 33 PG0 (~{WR}) (io), 34 PG1 (~{RD}) (io), 35 PC0 (A8) (io), 36 PC1 (A9) (io), 37 PC2 (A10 (io), 38 PC3 (A11) (io), 39 PC4 (A12) (io), 40 PC5 (A13) (io), 41 PC6 (A14) (io), 42 PC7 (A15) (io), 43 PG2 (ALE) (io), 44 PA7 (AD7) (io), 45 PA6 (AD6) (io), 46 PA5 (AD5) (io), 47 PA4 (AD4) (io), 48 PA3 (AD3) (io), 49 PA2 (AD2) (io), 50 PA1 (AD1) (io), 51 PA0 (AD0) (io), 52 VCC (power), 53 GND (power), 54 PF7 (ADC7/TDI) (io), 55 PF6 (ADC6/TDO) (io), 56 PF5 (ADC5/TMS) (io), 57 PF4 (ADC4/TCK) (io), 58 PF3 (ADC3) (io), 59 PF2 (ADC2) (io), 60 PF1 (ADC1) (io), 61 PF0 (ADC0) (io), 62 AREF, 63 GND (power), 64 AVCC (power)

## ATmega128-16AUR
designator U?
8-bit AVR Microcontroller, 4.5-5.5V, 128KB Flash, 4KB EEPROM, 4KB SRAM, 64-pin TQFP, Industrial Grade (-40°C to 85°C), Reel; DatasheetVersion: revX, Jun-2011; PackageVersion: revC, Oct-2010; PackageReference: 64A; PackageDescription: 64-Pin Plastic Thin Profile Quad Flat Pack, 14 x 14 x 1.0 mm Body, 0.8 mm Pitch (TQFP); Code_JEDEC: MS-026-AEB; ComponentLink1Description: Manufacturer URL; ComponentLink1URL: http://www.atmel.com/; ComponentLink2Description: ATmega128(L) Datasheet; ComponentLink2URL: http://www.atmel.com/dyn/resources/prod_documents/doc2467.pdf; ComponentLink3Description: ATmega128(L) Summary; ComponentLink3URL: http://www.atmel.com/dyn/resources/prod_documents/2467S.pdf
footprint 64A_N (Thin QFP, 64-Leads, Body 14x14mm, Pitch 0.8mm, IPC Medium Density)
footprint 64A_L (Thin QFP, 64-Leads, Body 14x14mm, Pitch 0.8mm, IPC High Density)
footprint 64A_M (Thin QFP, 64-Leads, Body 14x14mm, Pitch 0.8mm, IPC Low Density)
pins: 1 ~{PEN} (in), 2 PE0 (RXD0/(PDI) (io), 3 PE1 (TXD0/PDO) (io), 4 PE2 (XCK0/AIN0) (io), 5 PE3 (OC3A/AIN1) (io), 6 PE4 (OC3B/INT4) (io), 7 PE5 (OC3C/INT5) (io), 8 PE6 (T3/INT6) (io), 9 PE7 (IC3/INT7) (io), 10 PB0 (~{SS}) (io), 11 PB1 (SCK) (io), 12 PB2 (MOSI) (io), 13 PB3 (MISO) (io), 14 PB4 (OC0) (io), 15 PB5 (OC1A) (io), 16 PB6 (OC1B) (io), 17 PB7 (OC2/OC1C) (io), 18 PG3/TOSC2 (io), 19 PG4/TOSC1 (io), 20 ~{RESET} (in), 21 VCC (power), 22 GND (power), 23 XTAL2 (out), 24 XTAL1 (in), 25 PD0 (SCL/INT0) (io), 26 PD1 (SDA/INT1) (io), 27 PD2 (RXD1/INT2) (io), 28 PD3 (TXD1/INT3) (io), 29 PD4 (IC1) (io), 30 PD5 (XCK1) (io), 31 PD6 (T1) (io), 32 PD7 (T2) (io), 33 PG0 (~{WR}) (io), 34 PG1 (~{RD}) (io), 35 PC0 (A8) (io), 36 PC1 (A9) (io), 37 PC2 (A10 (io), 38 PC3 (A11) (io), 39 PC4 (A12) (io), 40 PC5 (A13) (io), 41 PC6 (A14) (io), 42 PC7 (A15) (io), 43 PG2 (ALE) (io), 44 PA7 (AD7) (io), 45 PA6 (AD6) (io), 46 PA5 (AD5) (io), 47 PA4 (AD4) (io), 48 PA3 (AD3) (io), 49 PA2 (AD2) (io), 50 PA1 (AD1) (io), 51 PA0 (AD0) (io), 52 VCC (power), 53 GND (power), 54 PF7 (ADC7/TDI) (io), 55 PF6 (ADC6/TDO) (io), 56 PF5 (ADC5/TMS) (io), 57 PF4 (ADC4/TCK) (io), 58 PF3 (ADC3) (io), 59 PF2 (ADC2) (io), 60 PF1 (ADC1) (io), 61 PF0 (ADC0) (io), 62 AREF, 63 GND (power), 64 AVCC (power)

## ATmega128-16MN
designator U?
8-bit AVR Microcontroller, 4.5-5.5V, 128KB Flash, 4KB EEPROM, 4KB SRAM, 64-pin MLF, Extended Grade (-40°C to 105°C); DatasheetVersion: revX, Jun-2011; PackageVersion: revH, Oct-2010; PackageReference: 64M1; PackageDescription: 64-Pin Micro Lead Frame Package (MLF), 9 x 9 x 1.0 mm Body, 0.5 mm Pitch, 5.40 mm Exposed Pad; Code_JEDEC: MO-220-VMMD; ComponentLink1Description: Manufacturer URL; ComponentLink1URL: http://www.atmel.com/; ComponentLink2Description: ATmega128(L) Datasheet; ComponentLink2URL: http://www.atmel.com/dyn/resources/prod_documents/doc2467.pdf; ComponentLink3Description: ATmega128(L) Summary; ComponentLink3URL: http://www.atmel.com/dyn/resources/prod_documents/2467S.pdf
footprint 64M1_N (QFN, 64-Leads, Body 9x9mm, Pitch 0.5mm, Thermal Pad 5.6x5.6mm, IPC Medium Density)
footprint 64M1_L (QFN, 64-Leads, Body 9x9mm, Pitch 0.5mm, Thermal Pad 5.6x5.6mm, IPC High Density)
footprint 64M1_M (QFN, 64-Leads, Body 9x9mm, Pitch 0.5mm, Thermal Pad 5.6x5.6mm, IPC Low Density)
pins: 1 ~{PEN} (in), 2 PE0 (RXD0/(PDI) (io), 3 PE1 (TXD0/PDO) (io), 4 PE2 (XCK0/AIN0) (io), 5 PE3 (OC3A/AIN1) (io), 6 PE4 (OC3B/INT4) (io), 7 PE5 (OC3C/INT5) (io), 8 PE6 (T3/INT6) (io), 9 PE7 (IC3/INT7) (io), 10 PB0 (~{SS}) (io), 11 PB1 (SCK) (io), 12 PB2 (MOSI) (io), 13 PB3 (MISO) (io), 14 PB4 (OC0) (io), 15 PB5 (OC1A) (io), 16 PB6 (OC1B) (io), 17 PB7 (OC2/OC1C) (io), 18 PG3/TOSC2 (io), 19 PG4/TOSC1 (io), 20 ~{RESET} (in), 21 VCC (power), 22 GND (power), 23 XTAL2, 24 XTAL1, 25 PD0 (SCL/INT0) (io), 26 PD1 (SDA/INT1) (io), 27 PD2 (RXD1/INT2) (io), 28 PD3 (TXD1/INT3) (io), 29 PD4 (IC1) (io), 30 PD5 (XCK1) (io), 31 PD6 (T1) (io), 32 PD7 (T2) (io), 33 PG0 (~{WR}) (io), 34 PG1 (~{RD}) (io), 35 PC0 (A8) (io), 36 PC1 (A9) (io), 37 PC2 (A10 (io), 38 PC3 (A11) (io), 39 PC4 (A12) (io), 40 PC5 (A13) (io), 41 PC6 (A14) (io), 42 PC7 (A15) (io), 43 PG2 (ALE) (io), 44 PA7 (AD7) (io), 45 PA6 (AD6) (io), 46 PA5 (AD5) (io), 47 PA4 (AD4) (io), 48 PA3 (AD3) (io), 49 PA2 (AD2) (io), 50 PA1 (AD1) (io), 51 PA0 (AD0) (io), 52 VCC (power), 53 GND (power), 54 PF7 (ADC7/TDI) (io), 55 PF6 (ADC6/TDO) (io), 56 PF5 (ADC5/TMS) (io), 57 PF4 (ADC4/TCK) (io), 58 PF3 (ADC3) (io), 59 PF2 (ADC2) (io), 60 PF1 (ADC1) (io), 61 PF0 (ADC0) (io), 62 AREF, 63 GND (power), 64 AVCC (power), 65 DAP (power)

## ATmega128-16MNR
designator U?
8-bit AVR Microcontroller, 4.5-5.5V, 128KB Flash, 4KB EEPROM, 4KB SRAM, 64-pin MLF, Extended Grade (-40°C to 105°C), Reel; DatasheetVersion: revX, Jun-2011; PackageVersion: revH, Oct-2010; PackageReference: 64M1; PackageDescription: 64-Pin Micro Lead Frame Package (MLF), 9 x 9 x 1.0 mm Body, 0.5 mm Pitch, 5.40 mm Exposed Pad; Code_JEDEC: MO-220-VMMD; ComponentLink1Description: Manufacturer URL; ComponentLink1URL: http://www.atmel.com/; ComponentLink2Description: ATmega128(L) Datasheet; ComponentLink2URL: http://www.atmel.com/dyn/resources/prod_documents/doc2467.pdf; ComponentLink3Description: ATmega128(L) Summary; ComponentLink3URL: http://www.atmel.com/dyn/resources/prod_documents/2467S.pdf
footprint 64M1_N (QFN, 64-Leads, Body 9x9mm, Pitch 0.5mm, Thermal Pad 5.6x5.6mm, IPC Medium Density)
footprint 64M1_L (QFN, 64-Leads, Body 9x9mm, Pitch 0.5mm, Thermal Pad 5.6x5.6mm, IPC High Density)
footprint 64M1_M (QFN, 64-Leads, Body 9x9mm, Pitch 0.5mm, Thermal Pad 5.6x5.6mm, IPC Low Density)
pins: 1 ~{PEN} (in), 2 PE0 (RXD0/(PDI) (io), 3 PE1 (TXD0/PDO) (io), 4 PE2 (XCK0/AIN0) (io), 5 PE3 (OC3A/AIN1) (io), 6 PE4 (OC3B/INT4) (io), 7 PE5 (OC3C/INT5) (io), 8 PE6 (T3/INT6) (io), 9 PE7 (IC3/INT7) (io), 10 PB0 (~{SS}) (io), 11 PB1 (SCK) (io), 12 PB2 (MOSI) (io), 13 PB3 (MISO) (io), 14 PB4 (OC0) (io), 15 PB5 (OC1A) (io), 16 PB6 (OC1B) (io), 17 PB7 (OC2/OC1C) (io), 18 PG3/TOSC2 (io), 19 PG4/TOSC1 (io), 20 ~{RESET} (in), 21 VCC (power), 22 GND (power), 23 XTAL2, 24 XTAL1, 25 PD0 (SCL/INT0) (io), 26 PD1 (SDA/INT1) (io), 27 PD2 (RXD1/INT2) (io), 28 PD3 (TXD1/INT3) (io), 29 PD4 (IC1) (io), 30 PD5 (XCK1) (io), 31 PD6 (T1) (io), 32 PD7 (T2) (io), 33 PG0 (~{WR}) (io), 34 PG1 (~{RD}) (io), 35 PC0 (A8) (io), 36 PC1 (A9) (io), 37 PC2 (A10 (io), 38 PC3 (A11) (io), 39 PC4 (A12) (io), 40 PC5 (A13) (io), 41 PC6 (A14) (io), 42 PC7 (A15) (io), 43 PG2 (ALE) (io), 44 PA7 (AD7) (io), 45 PA6 (AD6) (io), 46 PA5 (AD5) (io), 47 PA4 (AD4) (io), 48 PA3 (AD3) (io), 49 PA2 (AD2) (io), 50 PA1 (AD1) (io), 51 PA0 (AD0) (io), 52 VCC (power), 53 GND (power), 54 PF7 (ADC7/TDI) (io), 55 PF6 (ADC6/TDO) (io), 56 PF5 (ADC5/TMS) (io), 57 PF4 (ADC4/TCK) (io), 58 PF3 (ADC3) (io), 59 PF2 (ADC2) (io), 60 PF1 (ADC1) (io), 61 PF0 (ADC0) (io), 62 AREF, 63 GND (power), 64 AVCC (power), 65 DAP (power)

## ATmega128-16MU
designator U?
8-bit AVR Microcontroller, 4.5-5.5V, 128KB Flash, 4KB EEPROM, 4KB SRAM, 64-pin MLF, Industrial Grade (-40°C to 85°C); DatasheetVersion: revX, Jun-2011; PackageVersion: revH, Oct-2010; PackageReference: 64M1; PackageDescription: 64-Pin Micro Lead Frame Package (MLF), 9 x 9 x 1.0 mm Body, 0.5 mm Pitch, 5.40 mm Exposed Pad; Code_JEDEC: MO-220-VMMD; ComponentLink1Description: Manufacturer URL; ComponentLink1URL: http://www.atmel.com/; ComponentLink2Description: ATmega128(L) Datasheet; ComponentLink2URL: http://www.atmel.com/dyn/resources/prod_documents/doc2467.pdf; ComponentLink3Description: ATmega128(L) Summary; ComponentLink3URL: http://www.atmel.com/dyn/resources/prod_documents/2467S.pdf
footprint 64M1_N (QFN, 64-Leads, Body 9x9mm, Pitch 0.5mm, Thermal Pad 5.6x5.6mm, IPC Medium Density)
footprint 64M1_L (QFN, 64-Leads, Body 9x9mm, Pitch 0.5mm, Thermal Pad 5.6x5.6mm, IPC High Density)
footprint 64M1_M (QFN, 64-Leads, Body 9x9mm, Pitch 0.5mm, Thermal Pad 5.6x5.6mm, IPC Low Density)
pins: 1 ~{PEN} (in), 2 PE0 (RXD0/(PDI) (io), 3 PE1 (TXD0/PDO) (io), 4 PE2 (XCK0/AIN0) (io), 5 PE3 (OC3A/AIN1) (io), 6 PE4 (OC3B/INT4) (io), 7 PE5 (OC3C/INT5) (io), 8 PE6 (T3/INT6) (io), 9 PE7 (IC3/INT7) (io), 10 PB0 (~{SS}) (io), 11 PB1 (SCK) (io), 12 PB2 (MOSI) (io), 13 PB3 (MISO) (io), 14 PB4 (OC0) (io), 15 PB5 (OC1A) (io), 16 PB6 (OC1B) (io), 17 PB7 (OC2/OC1C) (io), 18 PG3/TOSC2 (io), 19 PG4/TOSC1 (io), 20 ~{RESET} (in), 21 VCC (power), 22 GND (power), 23 XTAL2, 24 XTAL1, 25 PD0 (SCL/INT0) (io), 26 PD1 (SDA/INT1) (io), 27 PD2 (RXD1/INT2) (io), 28 PD3 (TXD1/INT3) (io), 29 PD4 (IC1) (io), 30 PD5 (XCK1) (io), 31 PD6 (T1) (io), 32 PD7 (T2) (io), 33 PG0 (~{WR}) (io), 34 PG1 (~{RD}) (io), 35 PC0 (A8) (io), 36 PC1 (A9) (io), 37 PC2 (A10 (io), 38 PC3 (A11) (io), 39 PC4 (A12) (io), 40 PC5 (A13) (io), 41 PC6 (A14) (io), 42 PC7 (A15) (io), 43 PG2 (ALE) (io), 44 PA7 (AD7) (io), 45 PA6 (AD6) (io), 46 PA5 (AD5) (io), 47 PA4 (AD4) (io), 48 PA3 (AD3) (io), 49 PA2 (AD2) (io), 50 PA1 (AD1) (io), 51 PA0 (AD0) (io), 52 VCC (power), 53 GND (power), 54 PF7 (ADC7/TDI) (io), 55 PF6 (ADC6/TDO) (io), 56 PF5 (ADC5/TMS) (io), 57 PF4 (ADC4/TCK) (io), 58 PF3 (ADC3) (io), 59 PF2 (ADC2) (io), 60 PF1 (ADC1) (io), 61 PF0 (ADC0) (io), 62 AREF, 63 GND (power), 64 AVCC (power), 65 DAP (power)

## ATmega128-16MUR
designator U?
8-bit AVR Microcontroller, 4.5-5.5V, 128KB Flash, 4KB EEPROM, 4KB SRAM, 64-pin MLF, Industrial Grade (-40°C to 85°C), Reel; DatasheetVersion: revX, Jun-2011; PackageVersion: revH, Oct-2010; PackageReference: 64M1; PackageDescription: 64-Pin Micro Lead Frame Package (MLF), 9 x 9 x 1.0 mm Body, 0.5 mm Pitch, 5.40 mm Exposed Pad; Code_JEDEC: MO-220-VMMD; ComponentLink1Description: Manufacturer URL; ComponentLink1URL: http://www.atmel.com/; ComponentLink2Description: ATmega128(L) Datasheet; ComponentLink2URL: http://www.atmel.com/dyn/resources/prod_documents/doc2467.pdf; ComponentLink3Description: ATmega128(L) Summary; ComponentLink3URL: http://www.atmel.com/dyn/resources/prod_documents/2467S.pdf
footprint 64M1_N (QFN, 64-Leads, Body 9x9mm, Pitch 0.5mm, Thermal Pad 5.6x5.6mm, IPC Medium Density)
footprint 64M1_L (QFN, 64-Leads, Body 9x9mm, Pitch 0.5mm, Thermal Pad 5.6x5.6mm, IPC High Density)
footprint 64M1_M (QFN, 64-Leads, Body 9x9mm, Pitch 0.5mm, Thermal Pad 5.6x5.6mm, IPC Low Density)
pins: 1 ~{PEN} (in), 2 PE0 (RXD0/(PDI) (io), 3 PE1 (TXD0/PDO) (io), 4 PE2 (XCK0/AIN0) (io), 5 PE3 (OC3A/AIN1) (io), 6 PE4 (OC3B/INT4) (io), 7 PE5 (OC3C/INT5) (io), 8 PE6 (T3/INT6) (io), 9 PE7 (IC3/INT7) (io), 10 PB0 (~{SS}) (io), 11 PB1 (SCK) (io), 12 PB2 (MOSI) (io), 13 PB3 (MISO) (io), 14 PB4 (OC0) (io), 15 PB5 (OC1A) (io), 16 PB6 (OC1B) (io), 17 PB7 (OC2/OC1C) (io), 18 PG3/TOSC2 (io), 19 PG4/TOSC1 (io), 20 ~{RESET} (in), 21 VCC (power), 22 GND (power), 23 XTAL2, 24 XTAL1, 25 PD0 (SCL/INT0) (io), 26 PD1 (SDA/INT1) (io), 27 PD2 (RXD1/INT2) (io), 28 PD3 (TXD1/INT3) (io), 29 PD4 (IC1) (io), 30 PD5 (XCK1) (io), 31 PD6 (T1) (io), 32 PD7 (T2) (io), 33 PG0 (~{WR}) (io), 34 PG1 (~{RD}) (io), 35 PC0 (A8) (io), 36 PC1 (A9) (io), 37 PC2 (A10 (io), 38 PC3 (A11) (io), 39 PC4 (A12) (io), 40 PC5 (A13) (io), 41 PC6 (A14) (io), 42 PC7 (A15) (io), 43 PG2 (ALE) (io), 44 PA7 (AD7) (io), 45 PA6 (AD6) (io), 46 PA5 (AD5) (io), 47 PA4 (AD4) (io), 48 PA3 (AD3) (io), 49 PA2 (AD2) (io), 50 PA1 (AD1) (io), 51 PA0 (AD0) (io), 52 VCC (power), 53 GND (power), 54 PF7 (ADC7/TDI) (io), 55 PF6 (ADC6/TDO) (io), 56 PF5 (ADC5/TMS) (io), 57 PF4 (ADC4/TCK) (io), 58 PF3 (ADC3) (io), 59 PF2 (ADC2) (io), 60 PF1 (ADC1) (io), 61 PF0 (ADC0) (io), 62 AREF, 63 GND (power), 64 AVCC (power), 65 DAP (power)

## ATmega128A-AU
designator U?
8-bit AVR Microcontroller, 2.7-5.5V, 16MHz, 128KB Flash, 4KB EEPROM, 4KB SRAM, 64-pin TQFP, Industrial Grade (-40°C to 85°C); DatasheetVersion: revH, Feb-2011; PackageVersion: revC, Oct-2010; PackageReference: 64A; PackageDescription: 64-Pin Plastic Thin Profile Quad Flat Pack, 14 x 14 x 1.0 mm Body, 0.8 mm Pitch (TQFP); Code_JEDEC: MS-026-AEB; ComponentLink1Description: Manufacturer URL; ComponentLink1URL: http://www.atmel.com/; ComponentLink2Description: ATmega128A Datasheet; ComponentLink2URL: http://www.atmel.com/dyn/resources/prod_documents/doc8151.pdf; ComponentLink3Description: ATmega128A Summary; ComponentLink3URL: http://www.atmel.com/dyn/resources/prod_documents/8151S.pdf
footprint 64A_N (Thin QFP, 64-Leads, Body 14x14mm, Pitch 0.8mm, IPC Medium Density)
footprint 64A_L (Thin QFP, 64-Leads, Body 14x14mm, Pitch 0.8mm, IPC High Density)
footprint 64A_M (Thin QFP, 64-Leads, Body 14x14mm, Pitch 0.8mm, IPC Low Density)
pins: 1 ~{PEN} (in), 2 PE0 RXD0/(PDI) (io), 3 PE1 (TXD0/PDO) (io), 4 PE2 (XCK0/AIN0) (io), 5 PE3 (OC3A/AIN1) (io), 6 PE4 (OC3B/INT4) (io), 7 PE5 (OC3C/INT5) (io), 8 PE6 (T3/INT6) (io), 9 PE7 (ICP3/INT7) (io), 10 PB0 (~{SS}) (io), 11 PB1 (SCK) (io), 12 PB2 (MOSI) (io), 13 PB3 (MISO) (io), 14 PB4 (OC0) (io), 15 PB5 (OC1A) (io), 16 PB6 (OC1B) (io), 17 PB7 (OC2/OC1C) (io), 18 PG3/TOSC2 (io), 19 PG4/TOSC1 (io), 20 ~{RESET} (in), 21 VCC (power), 22 GND (power), 23 XTAL2 (out), 24 XTAL1 (in), 25 PD0 (SCL/INT0) (io), 26 PD1 (SDA/INT1) (io), 27 PD2 (RXD1/INT2) (io), 28 PD3 (TXD1/INT3) (io), 29 PD4 (ICP1) (io), 30 PD5 (XCK1) (io), 31 PD6 (T1) (io), 32 PD7 (T2) (io), 33 PG0 (~{WR}) (io), 34 PG1 (~{RD}) (io), 35 PC0 (A8) (io), 36 PC1 (A9) (io), 37 PC2 (A10 (io), 38 PC3 (A11) (io), 39 PC4 (A12) (io), 40 PC5 (A13) (io), 41 PC6 (A14) (io), 42 PC7 (A15) (io), 43 PG2 (ALE) (io), 44 PA7 (AD7) (io), 45 PA6 (AD6) (io), 46 PA5 (AD5) (io), 47 PA4 (AD4) (io), 48 PA3 (AD3) (io), 49 PA2 (AD2) (io), 50 PA1 (AD1) (io), 51 PA0 (AD0) (io), 52 VCC (power), 53 GND (power), 54 PF7 (ADC7/TDI) (io), 55 PF6 (ADC6/TDO) (io), 56 PF5 (ADC5/TMS) (io), 57 PF4 (ADC4/TCK) (io), 58 PF3 (ADC3) (io), 59 PF2 (ADC2) (io), 60 PF1 (ADC1) (io), 61 PF0 (ADC0) (io), 62 AREF (power), 63 GND (power), 64 AVCC (power)

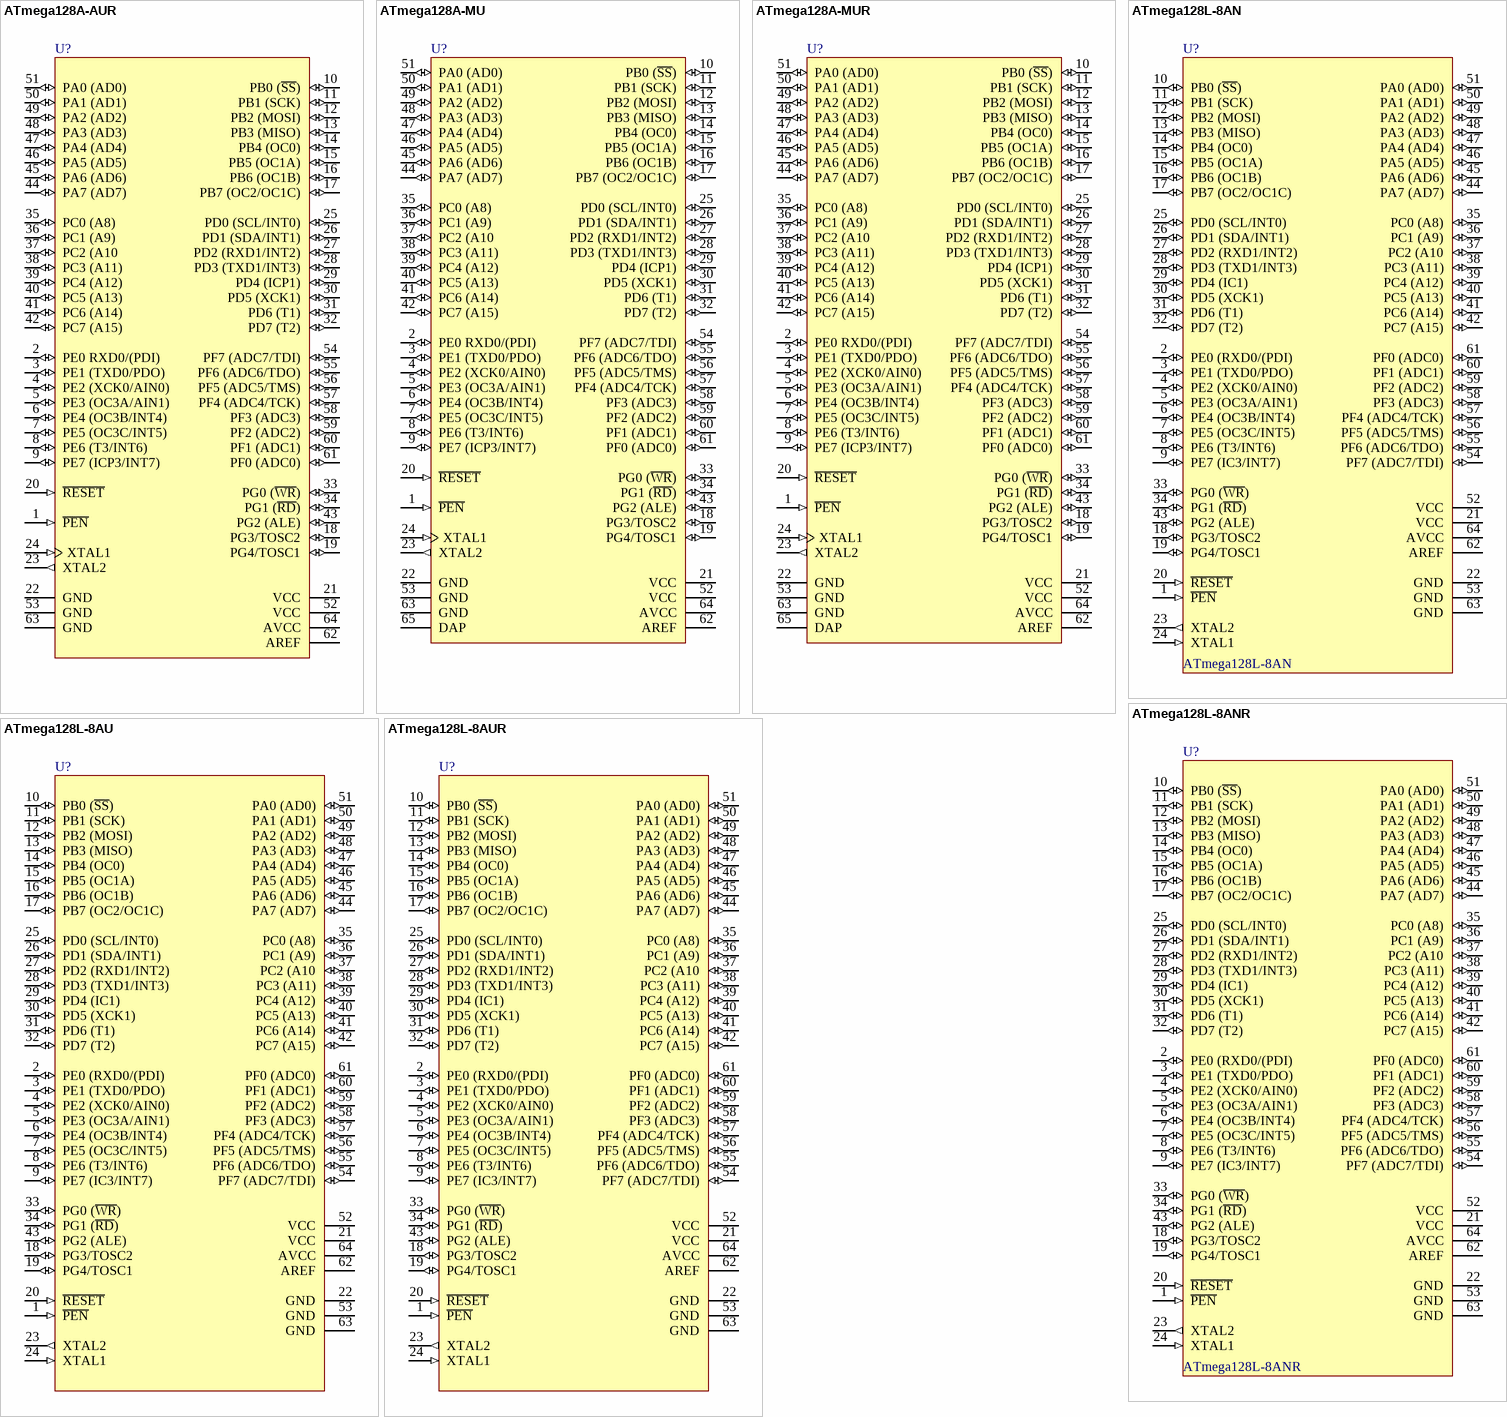
[diagram p21: symbols ATmega128A-AUR to ATmega128L-8AUR]